# Altium integrated library Lattice Semiconductor ECP3.IntLib: 126 symbols (part 4 of 29)
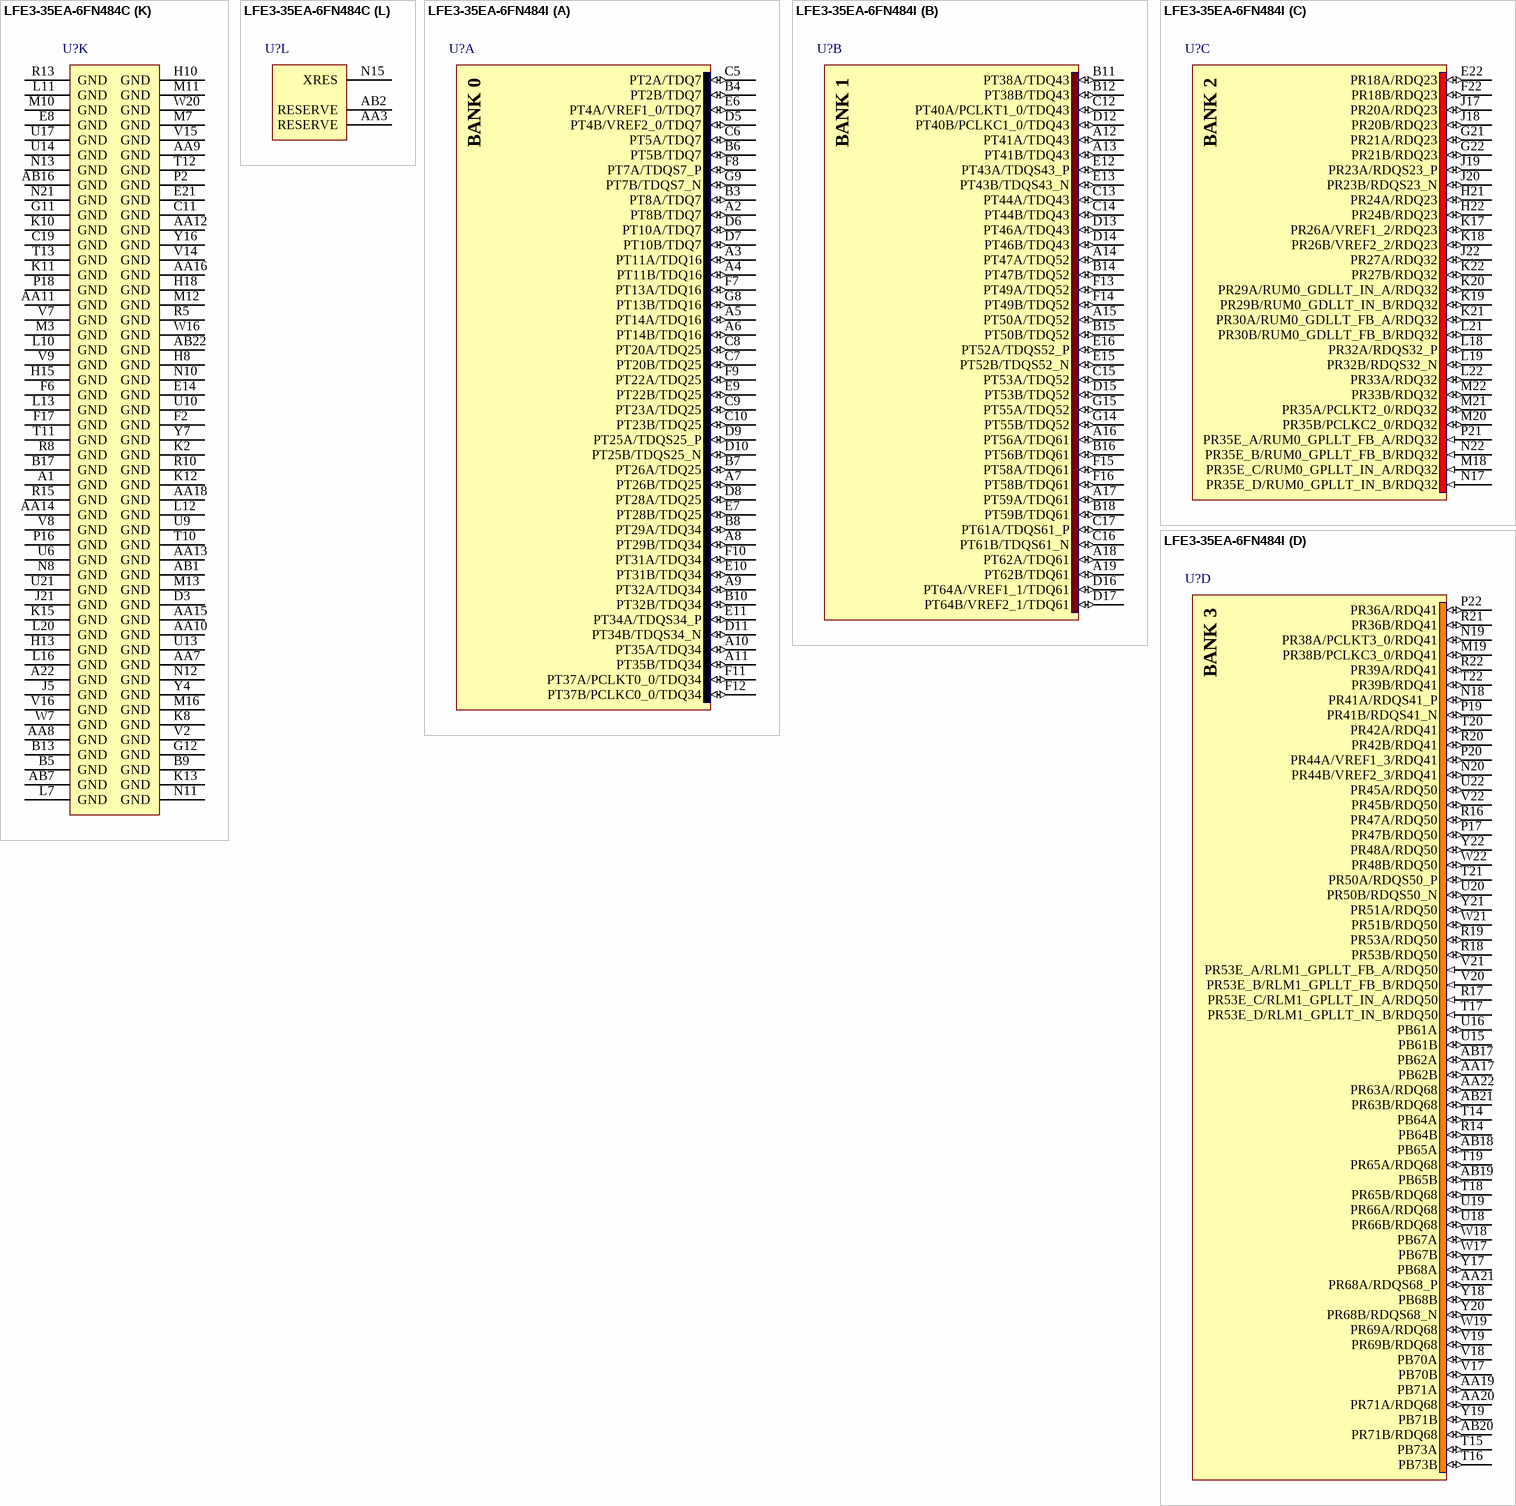
[diagram p259: symbols LFE3-35EA-6FN484C to LFE3-35EA-6FN484I]

## LFE3-35EA-6FN484C
designator U?
ECP3 1.2V FPGA, 295 I/Os, 33K LUTs, 484-Pin BGA, Speed Grade 6, Commercial Grade, Pb-Free; DatasheetVersion: Ver 01.9EA, Jul-2011; PackageVersion: ver02.8, Jul-2011; PackageReference: fpBGA484; PackageDescription: 484-Ball Fine Pitch Ball Grid Array (fpBGA484); Code_IPC: BGA100P22X22-484; ComponentLink1Description: Manufacturer URL; ComponentLink1URL: http://www.latticesemi.com/; ComponentLink2Description: Datasheet; ComponentLink2URL: http://www.latticesemi.com/documents/ds1021ea.pdf; ComponentLink3Description: Package Specification; ComponentLink3URL: http://www.latticesemi.com/lit/docs/package/pkg.pdf
footprint fpBGA484 (BGA, 484-Leads, Body 23x23mm, Pitch 1mm)
part A pins: A2 PT8B/TDQ7 (io), A3 PT11A/TDQ16 (io), A4 PT11B/TDQ16 (io), A5 PT14A/TDQ16 (io), A6 PT14B/TDQ16 (io), A7 PT26B/TDQ25 (io), A8 PT29B/TDQ34 (io), A9 PT32A/TDQ34 (io), A10 PT35A/TDQ34 (io), A11 PT35B/TDQ34 (io), B3 PT8A/TDQ7 (io), B4 PT2B/TDQ7 (io), B6 PT5B/TDQ7 (io), B7 PT26A/TDQ25 (io), B8 PT29A/TDQ34 (io), B10 PT32B/TDQ34 (io), C5 PT2A/TDQ7 (io), C6 PT5A/TDQ7 (io), C7 PT20B/TDQ25 (io), C8 PT20A/TDQ25 (io), C9 PT23A/TDQ25 (io), C10 PT23B/TDQ25 (io), D5 PT4B/VREF2_0/TDQ7 (io), D6 PT10A/TDQ7 (io), D7 PT10B/TDQ7 (io), D8 PT28A/TDQ25 (io), D9 PT25A/TDQS25_P (io), D10 PT25B/TDQS25_N (io), D11 PT34B/TDQS34_N (io), E6 PT4A/VREF1_0/TDQ7 (io), E7 PT28B/TDQ25 (io), E9 PT22B/TDQ25 (io), E10 PT31B/TDQ34 (io), E11 PT34A/TDQS34_P (io), F7 PT13A/TDQ16 (io), F8 PT7A/TDQS7_P (io), F9 PT22A/TDQ25 (io), F10 PT31A/TDQ34 (io), F11 PT37A/PCLKT0_0/TDQ34 (io), F12 PT37B/PCLKC0_0/TDQ34 (io), G8 PT13B/TDQ16 (io), G9 PT7B/TDQS7_N (io)
part B pins: A12 PT41A/TDQ43 (io), A13 PT41B/TDQ43 (io), A14 PT47A/TDQ52 (io), A15 PT50A/TDQ52 (io), A16 PT56A/TDQ61 (io), A17 PT59A/TDQ61 (io), A18 PT62A/TDQ61 (io), A19 PT62B/TDQ61 (io), B11 PT38A/TDQ43 (io), B12 PT38B/TDQ43 (io), B14 PT47B/TDQ52 (io), B15 PT50B/TDQ52 (io), B16 PT56B/TDQ61 (io), B18 PT59B/TDQ61 (io), C12 PT40A/PCLKT1_0/TDQ43 (io), C13 PT44A/TDQ43 (io), C14 PT44B/TDQ43 (io), C15 PT53A/TDQ52 (io), C16 PT61B/TDQS61_N (io), C17 PT61A/TDQS61_P (io), D12 PT40B/PCLKC1_0/TDQ43 (io), D13 PT46A/TDQ43 (io), D14 PT46B/TDQ43 (io), D15 PT53B/TDQ52 (io), D16 PT64A/VREF1_1/TDQ61 (io), D17 PT64B/VREF2_1/TDQ61 (io), E12 PT43A/TDQS43_P (io), E13 PT43B/TDQS43_N (io), E15 PT52B/TDQS52_N (io), E16 PT52A/TDQS52_P (io), F13 PT49A/TDQ52 (io), F14 PT49B/TDQ52 (io), F15 PT58A/TDQ61 (io), F16 PT58B/TDQ61 (io), G14 PT55B/TDQ52 (io), G15 PT55A/TDQ52 (io)
part C pins: E22 PR18A/RDQ23 (io), F22 PR18B/RDQ23 (io), G21 PR21A/RDQ23 (io), G22 PR21B/RDQ23 (io), H21 PR24A/RDQ23 (io), H22 PR24B/RDQ23 (io), J17 PR20A/RDQ23 (io), J18 PR20B/RDQ23 (io), J19 PR23A/RDQS23_P (io), J20 PR23B/RDQS23_N (io), J22 PR27A/RDQ32 (io), K17 PR26A/VREF1_2/RDQ23 (io), K18 PR26B/VREF2_2/RDQ23 (io), K19 PR29B/RUM0_GDLLT_IN_B/RDQ32 (io), K20 PR29A/RUM0_GDLLT_IN_A/RDQ32 (io), K21 PR30A/RUM0_GDLLT_FB_A/RDQ32 (io), K22 PR27B/RDQ32 (io), L18 PR32A/RDQS32_P (io), L19 PR32B/RDQS32_N (io), L21 PR30B/RUM0_GDLLT_FB_B/RDQ32 (io), L22 PR33A/RDQ32 (io), M18 PR35E_C/RUM0_GPLLT_IN_A/RDQ32 (in), M20 PR35B/PCLKC2_0/RDQ32 (io), M21 PR35A/PCLKT2_0/RDQ32 (io), M22 PR33B/RDQ32 (io), N17 PR35E_D/RUM0_GPLLT_IN_B/RDQ32 (in), N22 PR35E_B/RUM0_GPLLT_FB_B/RDQ32 (in), P21 PR35E_A/RUM0_GPLLT_FB_A/RDQ32 (in)
part D pins: AA17 PB62B (io), AA19 PB71A (io), AA20 PR71A/RDQ68 (io), AA21 PR68A/RDQS68_P (io), AA22 PR63A/RDQ68 (io), AB17 PB62A (io), AB18 PB65A (io), AB19 PB65B (io), AB20 PR71B/RDQ68 (io), AB21 PR63B/RDQ68 (io), M19 PR38B/PCLKC3_0/RDQ41 (io), N18 PR41A/RDQS41_P (io), N19 PR38A/PCLKT3_0/RDQ41 (io), N20 PR44B/VREF2_3/RDQ41 (io), P17 PR47B/RDQ50 (io), P19 PR41B/RDQS41_N (io), P20 PR44A/VREF1_3/RDQ41 (io), P22 PR36A/RDQ41 (io), R14 PB64B (io), R16 PR47A/RDQ50 (io), R17 PR53E_C/RLM1_GPLLT_IN_A/RDQ50 (in), R18 PR53B/RDQ50 (io), R19 PR53A/RDQ50 (io), R20 PR42B/RDQ41 (io), R21 PR36B/RDQ41 (io), R22 PR39A/RDQ41 (io), T14 PB64A (io), T15 PB73A (io), T16 PB73B (io), T17 PR53E_D/RLM1_GPLLT_IN_B/RDQ50 (in), T18 PR65B/RDQ68 (io), T19 PR65A/RDQ68 (io), T20 PR42A/RDQ41 (io), T21 PR50A/RDQS50_P (io), T22 PR39B/RDQ41 (io), U15 PB61B (io), U16 PB61A (io), U18 PR66B/RDQ68 (io), U19 PR66A/RDQ68 (io), U20 PR50B/RDQS50_N (io), U22 PR45A/RDQ50 (io), V17 PB70B (io), V18 PB70A (io), V19 PR69B/RDQ68 (io), V20 PR53E_B/RLM1_GPLLT_FB_B/RDQ50 (in), V21 PR53E_A/RLM1_GPLLT_FB_A/RDQ50 (in), V22 PR45B/RDQ50 (io), W17 PB67B (io), W18 PB67A (io), W19 PR69A/RDQ68 (io), W21 PR51B/RDQ50 (io), W22 PR48B/RDQ50 (io), Y17 PB68A (io), Y18 PB68B (io), Y19 PB71B (io), Y20 PR68B/RDQS68_N (io), Y21 PR51A/RDQ50 (io), Y22 PR48A/RDQ50 (io)
part E pins: AA1 PL66A/LDQ68 (io), AA2 PL69B/LDQ68 (io), AA4 PB5A (io), AA5 PB5B (io), AA6 PB11B (io), AB3 PB2A (io), AB4 PB2B (io), AB5 PB8A (io), AB6 PB8B (io), L2 PL36B/LDQ41 (io), L3 PL36A/LDQ41 (io), L4 PL38A/PCLKT6_0/LDQ41 (io), M1 PL39B/LDQ41 (io), M2 PL39A/LDQ41 (io), M4 PL38B/PCLKC6_0/LDQ41 (io), M5 PL41A/LDQS41_P (io), N1 PL42B/LDQ41 (io), N2 PL42A/LDQ41 (io), N3 PL45A/LDQ50 (io), N4 PL44A/VREF1_6/LDQ41 (io), N5 PL47A/LDQ50 (io), N6 PL41B/LDQS41_N (io), P1 PL48A/LDQ50 (io), P3 PL45B/LDQ50 (io), P4 PL44B/VREF2_6/LDQ41 (io), P5 PL50A/LDQS50_P (io), P6 PL47B/LDQ50 (io), P7 PL56B/LDQ59 (io), R1 PL48B/LDQ50 (io), R2 PL51B/LDQ50 (io), R3 PL51A/LDQ50 (io), R4 PL62A/LDQ59 (io), R6 PL50B/LDQS50_N (io), R7 PL59A/LDQS59_P (io), R9 PB16A (io), T1 PL53E_B/LLM1_GPLLT_FB_B (in), T2 PL53E_A/LLM1_GPLLT_FB_A (in), T3 PL53E_C/LLM1_GPLLT_IN_A (in), T4 PL65A/LDQ68 (io), T5 PL62B/LDQ59 (io), T6 PL68A/LDQS68_P (io), T7 PL59B/LDQS59_N (io), T8 PB13B (io), T9 PB16B (io), U1 PL53A/LDQ50 (io), U2 PL53B/LDQ50 (io), U3 PL53E_D/LLM1_GPLLT_IN_B (in), U4 PL65B/LDQ68 (io), U5 PL68B/LDQS68_N (io), U7 PB10B (io), U8 PB13A (io), V1 PL57A/LDQ59 (io), V3 PL60A/LDQ59 (io), V4 PL71A/LDQ68 (io), V5 PL71B/LDQ68 (io), V6 PB10A (io), W1 PL57B/LDQ59 (io), W2 PL63A/LDQ68 (io), W3 PL60B/LDQ59 (io), W4 PB4A (io), W5 PB7A (io), W6 PB7B (io), Y1 PL63B/LDQ68 (io), Y2 PL66B/LDQ68 (io), Y3 PL69A/LDQ68 (io), Y5 PB4B (io), Y6 PB11A (io)
part F pins: B1 PL21A/LDQ23 (io), B2 PL12A/LDQ14 (io), C1 PL21B/LDQ23 (io), C2 PL12B/LDQ14 (io), D1 PL15B/LDQ14 (io), D2 PL15A/LDQ14 (io), D4 PL9B/LDQ14 (io), E1 PL26A/VREF1_7/LDQ23 (io), E2 PL18A/LDQ23 (io), E3 PL9A/LDQ14 (io), E4 PL11B/LDQ14 (io), E5 PL11A/LDQ14 (io), F1 PL26B/VREF2_7/LDQ23 (io), F3 PL18B/LDQ23 (io), F4 PL14B/LDQS14_N (io), F5 PL14A/LDQS14_P (io), G1 PL27A/LDQ32 (io), G2 PL24B/LDQ23 (io), G3 PL24A/LDQ23 (io), G4 PL17A/LDQ14 (io), G5 PL17B/LDQ14 (io), H1 PL27B/LDQ32 (io), H2 PL30A/LUM0_GDLLT_FB_A/LDQ32 (io), H3 PL30B/LUM0_GDLLT_FB_B/LDQ32 (io), H4 PL20A/LDQ23 (io), H5 PL23A/LDQS23_P (io), H6 PL23B/LDQS23_N (io), J1 PL33B/LDQ32 (io), J2 PL33A/LDQ32 (io), J3 PL32A/LDQS32_P (io), J4 PL20B/LDQ23 (io), J6 PL29B/LUM0_GDLLT_IN_B/LDQ32 (io), J7 PL29A/LUM0_GDLLT_IN_A/LDQ32 (io), K1 PL35E_A/LUM0_GPLLT_FB_A (in), K3 PL32B/LDQS32_N (io), K4 PL35A/PCLKT7_0/LDQ32 (io), K5 PL35B/PCLKC7_0/LDQ32 (io), K6 PL35E_D/LUM0_GPLLT_IN_B (in), L1 PL35E_B/LUM0_GPLLT_FB_B (in), L5 PL35E_C/LUM0_GPLLT_IN_A (in)
part G pins: A20 PT71A (io), A21 PR9A/DOUT/CSON/CSSPI1N (io), B19 PT68B (io), B20 PT71B (io), B22 PR9B/MCLK (io), C18 PT68A (io), C21 PR6A (io), C22 PR12A/D1 (io), D18 PT73A (io), D19 PT73B (io), D21 PR6B/DI/CSSPI0N/CSSPIN (io), D22 PR12B/D2 (io), E17 PT70B (io), E18 PT70A (io), F18 PR8B/CSN/SN/CONT1N (io), F19 PR8A/CS1N/HOLDN/CONT2N (io), G17 PR14A/D3/SI (io), G18 PR14B/D4/SO (io), G19 PR15A/D5 (io), G20 PR15B/D6/SPID1 (io), H17 PR11B/D0/SPIFASTN (io), H19 PR17A/D7/SPID0 (io), H20 PR17B/BUSY/SISPI (io), J16 PR11A/WRITEN (io)
part H pins: B21 CFG2 (in), C3 TDO (out), C4 TMS (in), C20 PROGRAMN (in), D20 INITN (io), E19 CFG1 (in), E20 CFG0 (in), F20 CCLK (in), F21 DONE (io), G6 TDI (in), G7 TCK (in)
part I pins: AB8 PCSA_HDOUTP3 (out), AB9 PCSA_HDOUTN3 (out), AB10 PCSA_HDOUTN2 (out), AB11 PCSA_HDOUTP2 (out), AB12 PCSA_HDOUTP1 (out), AB13 PCSA_HDOUTN1 (out), AB14 PCSA_HDOUTN0 (out), AB15 PCSA_HDOUTP0 (out), V11 PCSA_REFCLKN (in), V12 PCSA_REFCLKP (in), Y8 PCSA_HDINP3 (in), Y9 PCSA_HDINN3 (in), Y10 PCSA_HDINN2 (in), Y11 PCSA_HDINP2 (in), Y12 PCSA_HDINP1 (in), Y13 PCSA_HDINN1 (in), Y14 PCSA_HDINN0 (in), Y15 PCSA_HDINP0 (in)
part J pins: G10 VCCIO0 (power), G13 VCCIO1 (power), G16 VCCIO8 (power), H7 VCCJ (power), H9 VCCIO0 (power), H11 VCCAUX (power), H12 VCCAUX (power), H14 VCCIO1 (power), H16 VCCIO8 (power), J8 VCCIO7 (power), J9 VCC (power), J10 VCC (power), J11 VCC (power), J12 VCC (power), J13 VCC (power), J14 VCC (power), J15 VCCIO2 (power), K7 VCCIO7 (power), K9 VCCPLL_L (power), K14 VCCPLL_R (power), K16 VCCIO2 (power), L6 VTT7 (power), L8 VCCAUX (power), L9 VCC (power), L14 VCC (power), L15 VCCAUX (power), L17 VTT2 (power), M6 VTT6 (power), M8 VCCAUX (power), M9 VCC (power), M14 VCC (power), M15 VCCAUX (power), M17 VTT3 (power), N7 VCCIO6 (power), N9 VCCPLL_L (power), N14 VCCPLL_R (power), N16 VCCIO3 (power), P8 VCCIO6 (power), P9 VCC (power), P10 VCC (power), P11 VCC (power), P12 VCC (power), P13 VCC (power), P14 VCC (power), P15 VCCIO3 (power), R11 VCCAUX (power), R12 VCCAUX (power), U11 VCCA (power), U12 VCCA (power), V10 VCCA (power), V13 VCCA (power), W8 PCSA_VCCIB3 (power), W9 PCSA_VCCOB3 (power), W10 PCSA_VCCOB2 (power), W11 PCSA_VCCIB2 (power), W12 PCSA_VCCIB1 (power), W13 PCSA_VCCOB1 (power), W14 PCSA_VCCOB0 (power), W15 PCSA_VCCIB0 (power)
part K pins: A1 GND (power), A22 GND (power), AA7 GND (power), AA8 GND (power), AA9 GND (power), AA10 GND (power), AA11 GND (power), AA12 GND (power), AA13 GND (power), AA14 GND (power), AA15 GND (power), AA16 GND (power), AA18 GND (power), AB1 GND (power), AB7 GND (power), AB16 GND (power), AB22 GND (power), B5 GND (power), B9 GND (power), B13 GND (power), B17 GND (power), C11 GND (power), C19 GND (power), D3 GND (power), E8 GND (power), E14 GND (power), E21 GND (power), F2 GND (power), F6 GND (power), F17 GND (power), G11 GND (power), G12 GND (power), H8 GND (power), H10 GND (power), H13 GND (power), H15 GND (power), H18 GND (power), J5 GND (power), J21 GND (power), K2 GND (power), K8 GND (power), K10 GND (power), K11 GND (power), K12 GND (power), K13 GND (power), K15 GND (power), L7 GND (power), L10 GND (power), L11 GND (power), L12 GND (power), L13 GND (power), L16 GND (power), L20 GND (power), M3 GND (power), M7 GND (power), M10 GND (power), M11 GND (power), M12 GND (power), M13 GND (power), M16 GND (power), N8 GND (power), N10 GND (power), N11 GND (power), N12 GND (power), N13 GND (power), N21 GND (power), P2 GND (power), P16 GND (power), P18 GND (power), R5 GND (power), R8 GND (power), R10 GND (power), R13 GND (power), R15 GND (power), T10 GND (power), T11 GND (power), T12 GND (power), T13 GND (power), U6 GND (power), U9 GND (power), U10 GND (power), U13 GND (power), U14 GND (power), U17 GND (power), U21 GND (power), V2 GND (power), V7 GND (power), V8 GND (power), V9 GND (power), V14 GND (power), V15 GND (power), V16 GND (power), W7 GND (power), W16 GND (power), W20 GND (power), Y4 GND (power), Y7 GND (power), Y16 GND (power)
part L pins: AA3 RESERVE, AB2 RESERVE, N15 XRES
part A text: BANK 0
part B text: BANK 1
part C text: BANK 2
part D text: BANK 3
part E text: BANK 6
part F text: BANK 7
part G text: BANK 8

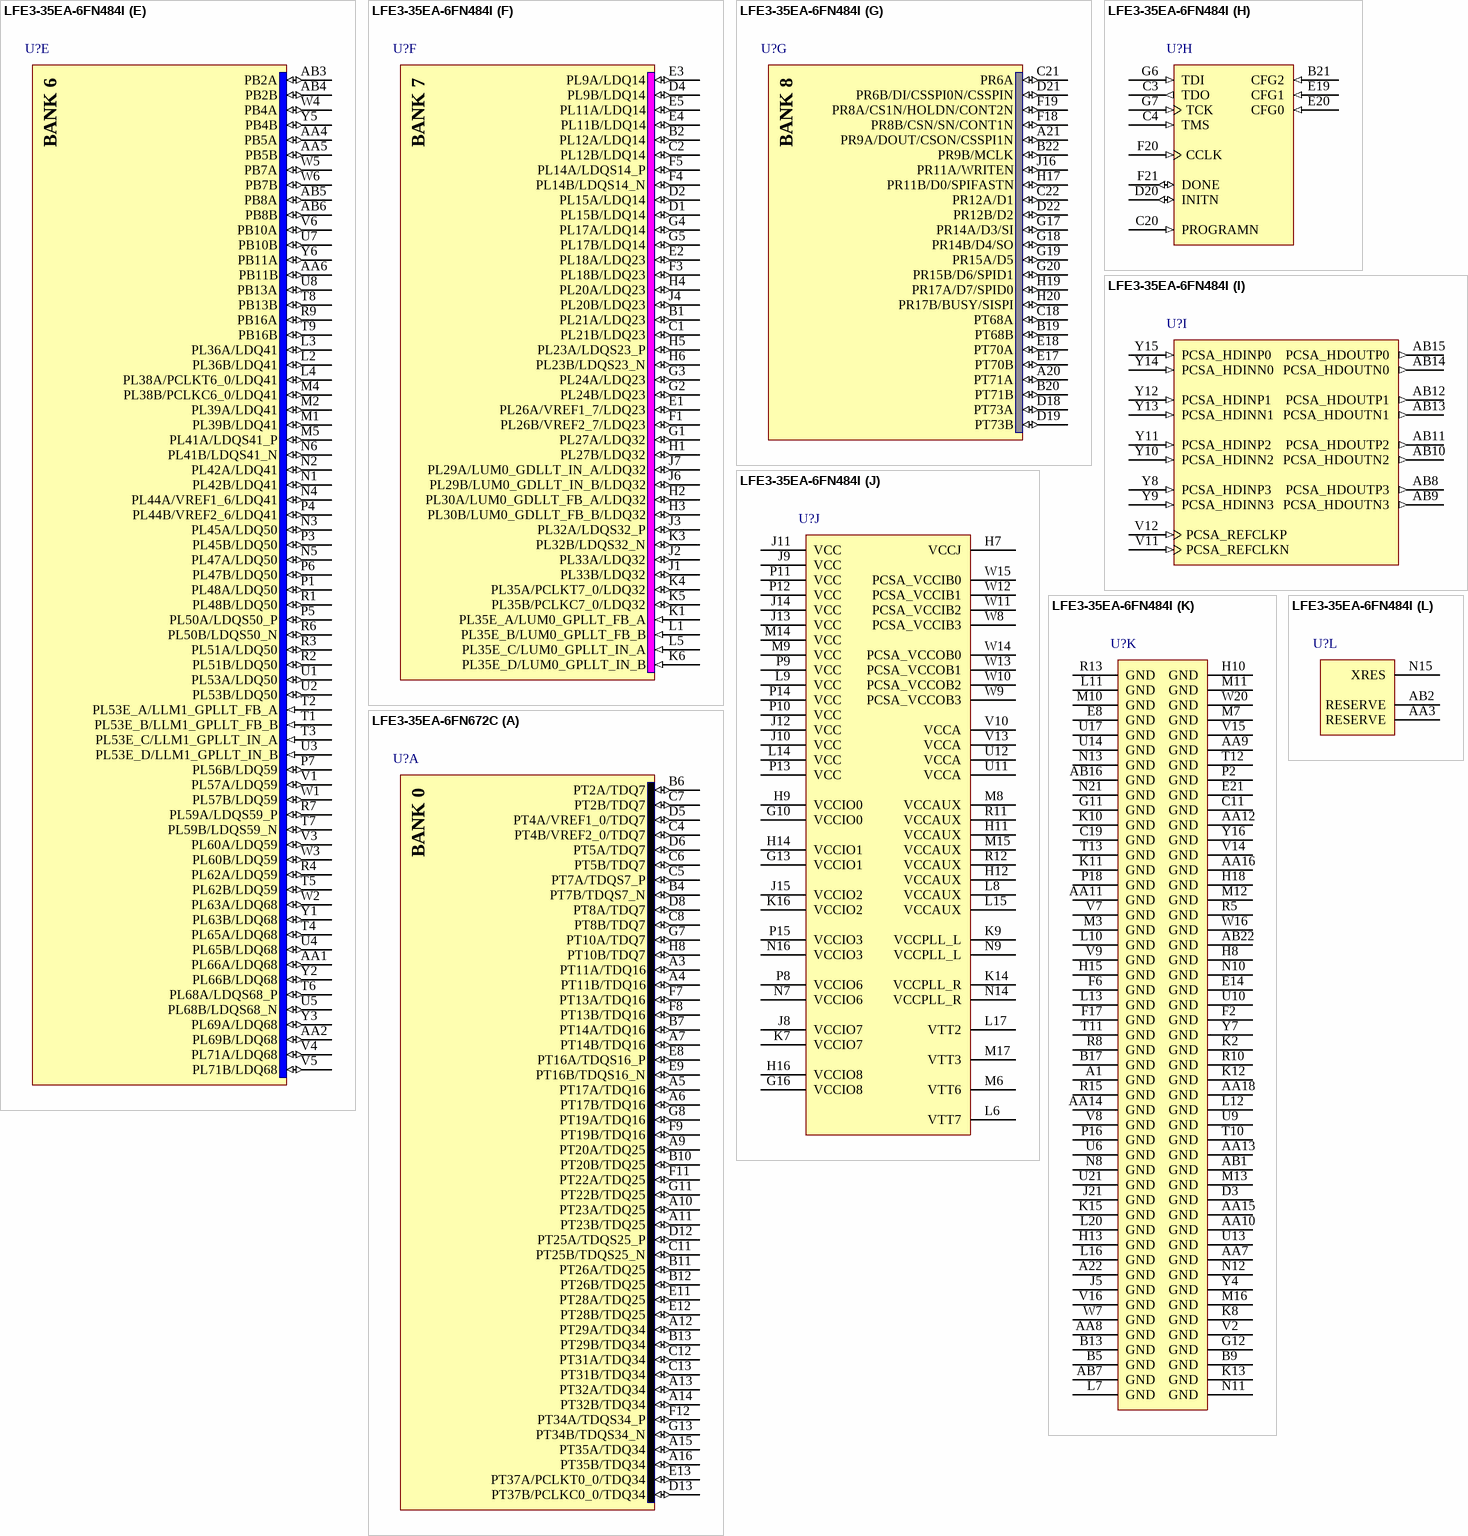
[diagram p17: symbols LFE3-35EA-6FN484I to LFE3-35EA-6FN672C]

## LFE3-35EA-6FN484I
designator U?
ECP3 1.2V FPGA, 295 I/Os, 33K LUTs, 484-Pin BGA, Speed Grade 6, Industrial Grade, Pb-Free; DatasheetVersion: Ver 01.9EA, Jul-2011; PackageVersion: ver02.8, Jul-2011; PackageReference: fpBGA484; PackageDescription: 484-Ball Fine Pitch Ball Grid Array (fpBGA484); Code_IPC: BGA100P22X22-484; ComponentLink1Description: Manufacturer URL; ComponentLink1URL: http://www.latticesemi.com/; ComponentLink2Description: Datasheet; ComponentLink2URL: http://www.latticesemi.com/documents/ds1021ea.pdf; ComponentLink3Description: Package Specification; ComponentLink3URL: http://www.latticesemi.com/lit/docs/package/pkg.pdf
footprint fpBGA484 (BGA, 484-Leads, Body 23x23mm, Pitch 1mm)
part A pins: A2 PT8B/TDQ7 (io), A3 PT11A/TDQ16 (io), A4 PT11B/TDQ16 (io), A5 PT14A/TDQ16 (io), A6 PT14B/TDQ16 (io), A7 PT26B/TDQ25 (io), A8 PT29B/TDQ34 (io), A9 PT32A/TDQ34 (io), A10 PT35A/TDQ34 (io), A11 PT35B/TDQ34 (io), B3 PT8A/TDQ7 (io), B4 PT2B/TDQ7 (io), B6 PT5B/TDQ7 (io), B7 PT26A/TDQ25 (io), B8 PT29A/TDQ34 (io), B10 PT32B/TDQ34 (io), C5 PT2A/TDQ7 (io), C6 PT5A/TDQ7 (io), C7 PT20B/TDQ25 (io), C8 PT20A/TDQ25 (io), C9 PT23A/TDQ25 (io), C10 PT23B/TDQ25 (io), D5 PT4B/VREF2_0/TDQ7 (io), D6 PT10A/TDQ7 (io), D7 PT10B/TDQ7 (io), D8 PT28A/TDQ25 (io), D9 PT25A/TDQS25_P (io), D10 PT25B/TDQS25_N (io), D11 PT34B/TDQS34_N (io), E6 PT4A/VREF1_0/TDQ7 (io), E7 PT28B/TDQ25 (io), E9 PT22B/TDQ25 (io), E10 PT31B/TDQ34 (io), E11 PT34A/TDQS34_P (io), F7 PT13A/TDQ16 (io), F8 PT7A/TDQS7_P (io), F9 PT22A/TDQ25 (io), F10 PT31A/TDQ34 (io), F11 PT37A/PCLKT0_0/TDQ34 (io), F12 PT37B/PCLKC0_0/TDQ34 (io), G8 PT13B/TDQ16 (io), G9 PT7B/TDQS7_N (io)
part B pins: A12 PT41A/TDQ43 (io), A13 PT41B/TDQ43 (io), A14 PT47A/TDQ52 (io), A15 PT50A/TDQ52 (io), A16 PT56A/TDQ61 (io), A17 PT59A/TDQ61 (io), A18 PT62A/TDQ61 (io), A19 PT62B/TDQ61 (io), B11 PT38A/TDQ43 (io), B12 PT38B/TDQ43 (io), B14 PT47B/TDQ52 (io), B15 PT50B/TDQ52 (io), B16 PT56B/TDQ61 (io), B18 PT59B/TDQ61 (io), C12 PT40A/PCLKT1_0/TDQ43 (io), C13 PT44A/TDQ43 (io), C14 PT44B/TDQ43 (io), C15 PT53A/TDQ52 (io), C16 PT61B/TDQS61_N (io), C17 PT61A/TDQS61_P (io), D12 PT40B/PCLKC1_0/TDQ43 (io), D13 PT46A/TDQ43 (io), D14 PT46B/TDQ43 (io), D15 PT53B/TDQ52 (io), D16 PT64A/VREF1_1/TDQ61 (io), D17 PT64B/VREF2_1/TDQ61 (io), E12 PT43A/TDQS43_P (io), E13 PT43B/TDQS43_N (io), E15 PT52B/TDQS52_N (io), E16 PT52A/TDQS52_P (io), F13 PT49A/TDQ52 (io), F14 PT49B/TDQ52 (io), F15 PT58A/TDQ61 (io), F16 PT58B/TDQ61 (io), G14 PT55B/TDQ52 (io), G15 PT55A/TDQ52 (io)
part C pins: E22 PR18A/RDQ23 (io), F22 PR18B/RDQ23 (io), G21 PR21A/RDQ23 (io), G22 PR21B/RDQ23 (io), H21 PR24A/RDQ23 (io), H22 PR24B/RDQ23 (io), J17 PR20A/RDQ23 (io), J18 PR20B/RDQ23 (io), J19 PR23A/RDQS23_P (io), J20 PR23B/RDQS23_N (io), J22 PR27A/RDQ32 (io), K17 PR26A/VREF1_2/RDQ23 (io), K18 PR26B/VREF2_2/RDQ23 (io), K19 PR29B/RUM0_GDLLT_IN_B/RDQ32 (io), K20 PR29A/RUM0_GDLLT_IN_A/RDQ32 (io), K21 PR30A/RUM0_GDLLT_FB_A/RDQ32 (io), K22 PR27B/RDQ32 (io), L18 PR32A/RDQS32_P (io), L19 PR32B/RDQS32_N (io), L21 PR30B/RUM0_GDLLT_FB_B/RDQ32 (io), L22 PR33A/RDQ32 (io), M18 PR35E_C/RUM0_GPLLT_IN_A/RDQ32 (in), M20 PR35B/PCLKC2_0/RDQ32 (io), M21 PR35A/PCLKT2_0/RDQ32 (io), M22 PR33B/RDQ32 (io), N17 PR35E_D/RUM0_GPLLT_IN_B/RDQ32 (in), N22 PR35E_B/RUM0_GPLLT_FB_B/RDQ32 (in), P21 PR35E_A/RUM0_GPLLT_FB_A/RDQ32 (in)
part D pins: AA17 PB62B (io), AA19 PB71A (io), AA20 PR71A/RDQ68 (io), AA21 PR68A/RDQS68_P (io), AA22 PR63A/RDQ68 (io), AB17 PB62A (io), AB18 PB65A (io), AB19 PB65B (io), AB20 PR71B/RDQ68 (io), AB21 PR63B/RDQ68 (io), M19 PR38B/PCLKC3_0/RDQ41 (io), N18 PR41A/RDQS41_P (io), N19 PR38A/PCLKT3_0/RDQ41 (io), N20 PR44B/VREF2_3/RDQ41 (io), P17 PR47B/RDQ50 (io), P19 PR41B/RDQS41_N (io), P20 PR44A/VREF1_3/RDQ41 (io), P22 PR36A/RDQ41 (io), R14 PB64B (io), R16 PR47A/RDQ50 (io), R17 PR53E_C/RLM1_GPLLT_IN_A/RDQ50 (in), R18 PR53B/RDQ50 (io), R19 PR53A/RDQ50 (io), R20 PR42B/RDQ41 (io), R21 PR36B/RDQ41 (io), R22 PR39A/RDQ41 (io), T14 PB64A (io), T15 PB73A (io), T16 PB73B (io), T17 PR53E_D/RLM1_GPLLT_IN_B/RDQ50 (in), T18 PR65B/RDQ68 (io), T19 PR65A/RDQ68 (io), T20 PR42A/RDQ41 (io), T21 PR50A/RDQS50_P (io), T22 PR39B/RDQ41 (io), U15 PB61B (io), U16 PB61A (io), U18 PR66B/RDQ68 (io), U19 PR66A/RDQ68 (io), U20 PR50B/RDQS50_N (io), U22 PR45A/RDQ50 (io), V17 PB70B (io), V18 PB70A (io), V19 PR69B/RDQ68 (io), V20 PR53E_B/RLM1_GPLLT_FB_B/RDQ50 (in), V21 PR53E_A/RLM1_GPLLT_FB_A/RDQ50 (in), V22 PR45B/RDQ50 (io), W17 PB67B (io), W18 PB67A (io), W19 PR69A/RDQ68 (io), W21 PR51B/RDQ50 (io), W22 PR48B/RDQ50 (io), Y17 PB68A (io), Y18 PB68B (io), Y19 PB71B (io), Y20 PR68B/RDQS68_N (io), Y21 PR51A/RDQ50 (io), Y22 PR48A/RDQ50 (io)
part E pins: AA1 PL66A/LDQ68 (io), AA2 PL69B/LDQ68 (io), AA4 PB5A (io), AA5 PB5B (io), AA6 PB11B (io), AB3 PB2A (io), AB4 PB2B (io), AB5 PB8A (io), AB6 PB8B (io), L2 PL36B/LDQ41 (io), L3 PL36A/LDQ41 (io), L4 PL38A/PCLKT6_0/LDQ41 (io), M1 PL39B/LDQ41 (io), M2 PL39A/LDQ41 (io), M4 PL38B/PCLKC6_0/LDQ41 (io), M5 PL41A/LDQS41_P (io), N1 PL42B/LDQ41 (io), N2 PL42A/LDQ41 (io), N3 PL45A/LDQ50 (io), N4 PL44A/VREF1_6/LDQ41 (io), N5 PL47A/LDQ50 (io), N6 PL41B/LDQS41_N (io), P1 PL48A/LDQ50 (io), P3 PL45B/LDQ50 (io), P4 PL44B/VREF2_6/LDQ41 (io), P5 PL50A/LDQS50_P (io), P6 PL47B/LDQ50 (io), P7 PL56B/LDQ59 (io), R1 PL48B/LDQ50 (io), R2 PL51B/LDQ50 (io), R3 PL51A/LDQ50 (io), R4 PL62A/LDQ59 (io), R6 PL50B/LDQS50_N (io), R7 PL59A/LDQS59_P (io), R9 PB16A (io), T1 PL53E_B/LLM1_GPLLT_FB_B (in), T2 PL53E_A/LLM1_GPLLT_FB_A (in), T3 PL53E_C/LLM1_GPLLT_IN_A (in), T4 PL65A/LDQ68 (io), T5 PL62B/LDQ59 (io), T6 PL68A/LDQS68_P (io), T7 PL59B/LDQS59_N (io), T8 PB13B (io), T9 PB16B (io), U1 PL53A/LDQ50 (io), U2 PL53B/LDQ50 (io), U3 PL53E_D/LLM1_GPLLT_IN_B (in), U4 PL65B/LDQ68 (io), U5 PL68B/LDQS68_N (io), U7 PB10B (io), U8 PB13A (io), V1 PL57A/LDQ59 (io), V3 PL60A/LDQ59 (io), V4 PL71A/LDQ68 (io), V5 PL71B/LDQ68 (io), V6 PB10A (io), W1 PL57B/LDQ59 (io), W2 PL63A/LDQ68 (io), W3 PL60B/LDQ59 (io), W4 PB4A (io), W5 PB7A (io), W6 PB7B (io), Y1 PL63B/LDQ68 (io), Y2 PL66B/LDQ68 (io), Y3 PL69A/LDQ68 (io), Y5 PB4B (io), Y6 PB11A (io)
part F pins: B1 PL21A/LDQ23 (io), B2 PL12A/LDQ14 (io), C1 PL21B/LDQ23 (io), C2 PL12B/LDQ14 (io), D1 PL15B/LDQ14 (io), D2 PL15A/LDQ14 (io), D4 PL9B/LDQ14 (io), E1 PL26A/VREF1_7/LDQ23 (io), E2 PL18A/LDQ23 (io), E3 PL9A/LDQ14 (io), E4 PL11B/LDQ14 (io), E5 PL11A/LDQ14 (io), F1 PL26B/VREF2_7/LDQ23 (io), F3 PL18B/LDQ23 (io), F4 PL14B/LDQS14_N (io), F5 PL14A/LDQS14_P (io), G1 PL27A/LDQ32 (io), G2 PL24B/LDQ23 (io), G3 PL24A/LDQ23 (io), G4 PL17A/LDQ14 (io), G5 PL17B/LDQ14 (io), H1 PL27B/LDQ32 (io), H2 PL30A/LUM0_GDLLT_FB_A/LDQ32 (io), H3 PL30B/LUM0_GDLLT_FB_B/LDQ32 (io), H4 PL20A/LDQ23 (io), H5 PL23A/LDQS23_P (io), H6 PL23B/LDQS23_N (io), J1 PL33B/LDQ32 (io), J2 PL33A/LDQ32 (io), J3 PL32A/LDQS32_P (io), J4 PL20B/LDQ23 (io), J6 PL29B/LUM0_GDLLT_IN_B/LDQ32 (io), J7 PL29A/LUM0_GDLLT_IN_A/LDQ32 (io), K1 PL35E_A/LUM0_GPLLT_FB_A (in), K3 PL32B/LDQS32_N (io), K4 PL35A/PCLKT7_0/LDQ32 (io), K5 PL35B/PCLKC7_0/LDQ32 (io), K6 PL35E_D/LUM0_GPLLT_IN_B (in), L1 PL35E_B/LUM0_GPLLT_FB_B (in), L5 PL35E_C/LUM0_GPLLT_IN_A (in)
part G pins: A20 PT71A (io), A21 PR9A/DOUT/CSON/CSSPI1N (io), B19 PT68B (io), B20 PT71B (io), B22 PR9B/MCLK (io), C18 PT68A (io), C21 PR6A (io), C22 PR12A/D1 (io), D18 PT73A (io), D19 PT73B (io), D21 PR6B/DI/CSSPI0N/CSSPIN (io), D22 PR12B/D2 (io), E17 PT70B (io), E18 PT70A (io), F18 PR8B/CSN/SN/CONT1N (io), F19 PR8A/CS1N/HOLDN/CONT2N (io), G17 PR14A/D3/SI (io), G18 PR14B/D4/SO (io), G19 PR15A/D5 (io), G20 PR15B/D6/SPID1 (io), H17 PR11B/D0/SPIFASTN (io), H19 PR17A/D7/SPID0 (io), H20 PR17B/BUSY/SISPI (io), J16 PR11A/WRITEN (io)
part H pins: B21 CFG2 (in), C3 TDO (out), C4 TMS (in), C20 PROGRAMN (in), D20 INITN (io), E19 CFG1 (in), E20 CFG0 (in), F20 CCLK (in), F21 DONE (io), G6 TDI (in), G7 TCK (in)
part I pins: AB8 PCSA_HDOUTP3 (out), AB9 PCSA_HDOUTN3 (out), AB10 PCSA_HDOUTN2 (out), AB11 PCSA_HDOUTP2 (out), AB12 PCSA_HDOUTP1 (out), AB13 PCSA_HDOUTN1 (out), AB14 PCSA_HDOUTN0 (out), AB15 PCSA_HDOUTP0 (out), V11 PCSA_REFCLKN (in), V12 PCSA_REFCLKP (in), Y8 PCSA_HDINP3 (in), Y9 PCSA_HDINN3 (in), Y10 PCSA_HDINN2 (in), Y11 PCSA_HDINP2 (in), Y12 PCSA_HDINP1 (in), Y13 PCSA_HDINN1 (in), Y14 PCSA_HDINN0 (in), Y15 PCSA_HDINP0 (in)
part J pins: G10 VCCIO0 (power), G13 VCCIO1 (power), G16 VCCIO8 (power), H7 VCCJ (power), H9 VCCIO0 (power), H11 VCCAUX (power), H12 VCCAUX (power), H14 VCCIO1 (power), H16 VCCIO8 (power), J8 VCCIO7 (power), J9 VCC (power), J10 VCC (power), J11 VCC (power), J12 VCC (power), J13 VCC (power), J14 VCC (power), J15 VCCIO2 (power), K7 VCCIO7 (power), K9 VCCPLL_L (power), K14 VCCPLL_R (power), K16 VCCIO2 (power), L6 VTT7 (power), L8 VCCAUX (power), L9 VCC (power), L14 VCC (power), L15 VCCAUX (power), L17 VTT2 (power), M6 VTT6 (power), M8 VCCAUX (power), M9 VCC (power), M14 VCC (power), M15 VCCAUX (power), M17 VTT3 (power), N7 VCCIO6 (power), N9 VCCPLL_L (power), N14 VCCPLL_R (power), N16 VCCIO3 (power), P8 VCCIO6 (power), P9 VCC (power), P10 VCC (power), P11 VCC (power), P12 VCC (power), P13 VCC (power), P14 VCC (power), P15 VCCIO3 (power), R11 VCCAUX (power), R12 VCCAUX (power), U11 VCCA (power), U12 VCCA (power), V10 VCCA (power), V13 VCCA (power), W8 PCSA_VCCIB3 (power), W9 PCSA_VCCOB3 (power), W10 PCSA_VCCOB2 (power), W11 PCSA_VCCIB2 (power), W12 PCSA_VCCIB1 (power), W13 PCSA_VCCOB1 (power), W14 PCSA_VCCOB0 (power), W15 PCSA_VCCIB0 (power)
part K pins: A1 GND (power), A22 GND (power), AA7 GND (power), AA8 GND (power), AA9 GND (power), AA10 GND (power), AA11 GND (power), AA12 GND (power), AA13 GND (power), AA14 GND (power), AA15 GND (power), AA16 GND (power), AA18 GND (power), AB1 GND (power), AB7 GND (power), AB16 GND (power), AB22 GND (power), B5 GND (power), B9 GND (power), B13 GND (power), B17 GND (power), C11 GND (power), C19 GND (power), D3 GND (power), E8 GND (power), E14 GND (power), E21 GND (power), F2 GND (power), F6 GND (power), F17 GND (power), G11 GND (power), G12 GND (power), H8 GND (power), H10 GND (power), H13 GND (power), H15 GND (power), H18 GND (power), J5 GND (power), J21 GND (power), K2 GND (power), K8 GND (power), K10 GND (power), K11 GND (power), K12 GND (power), K13 GND (power), K15 GND (power), L7 GND (power), L10 GND (power), L11 GND (power), L12 GND (power), L13 GND (power), L16 GND (power), L20 GND (power), M3 GND (power), M7 GND (power), M10 GND (power), M11 GND (power), M12 GND (power), M13 GND (power), M16 GND (power), N8 GND (power), N10 GND (power), N11 GND (power), N12 GND (power), N13 GND (power), N21 GND (power), P2 GND (power), P16 GND (power), P18 GND (power), R5 GND (power), R8 GND (power), R10 GND (power), R13 GND (power), R15 GND (power), T10 GND (power), T11 GND (power), T12 GND (power), T13 GND (power), U6 GND (power), U9 GND (power), U10 GND (power), U13 GND (power), U14 GND (power), U17 GND (power), U21 GND (power), V2 GND (power), V7 GND (power), V8 GND (power), V9 GND (power), V14 GND (power), V15 GND (power), V16 GND (power), W7 GND (power), W16 GND (power), W20 GND (power), Y4 GND (power), Y7 GND (power), Y16 GND (power)
part L pins: AA3 RESERVE, AB2 RESERVE, N15 XRES
part A text: BANK 0
part B text: BANK 1
part C text: BANK 2
part D text: BANK 3
part E text: BANK 6
part F text: BANK 7
part G text: BANK 8

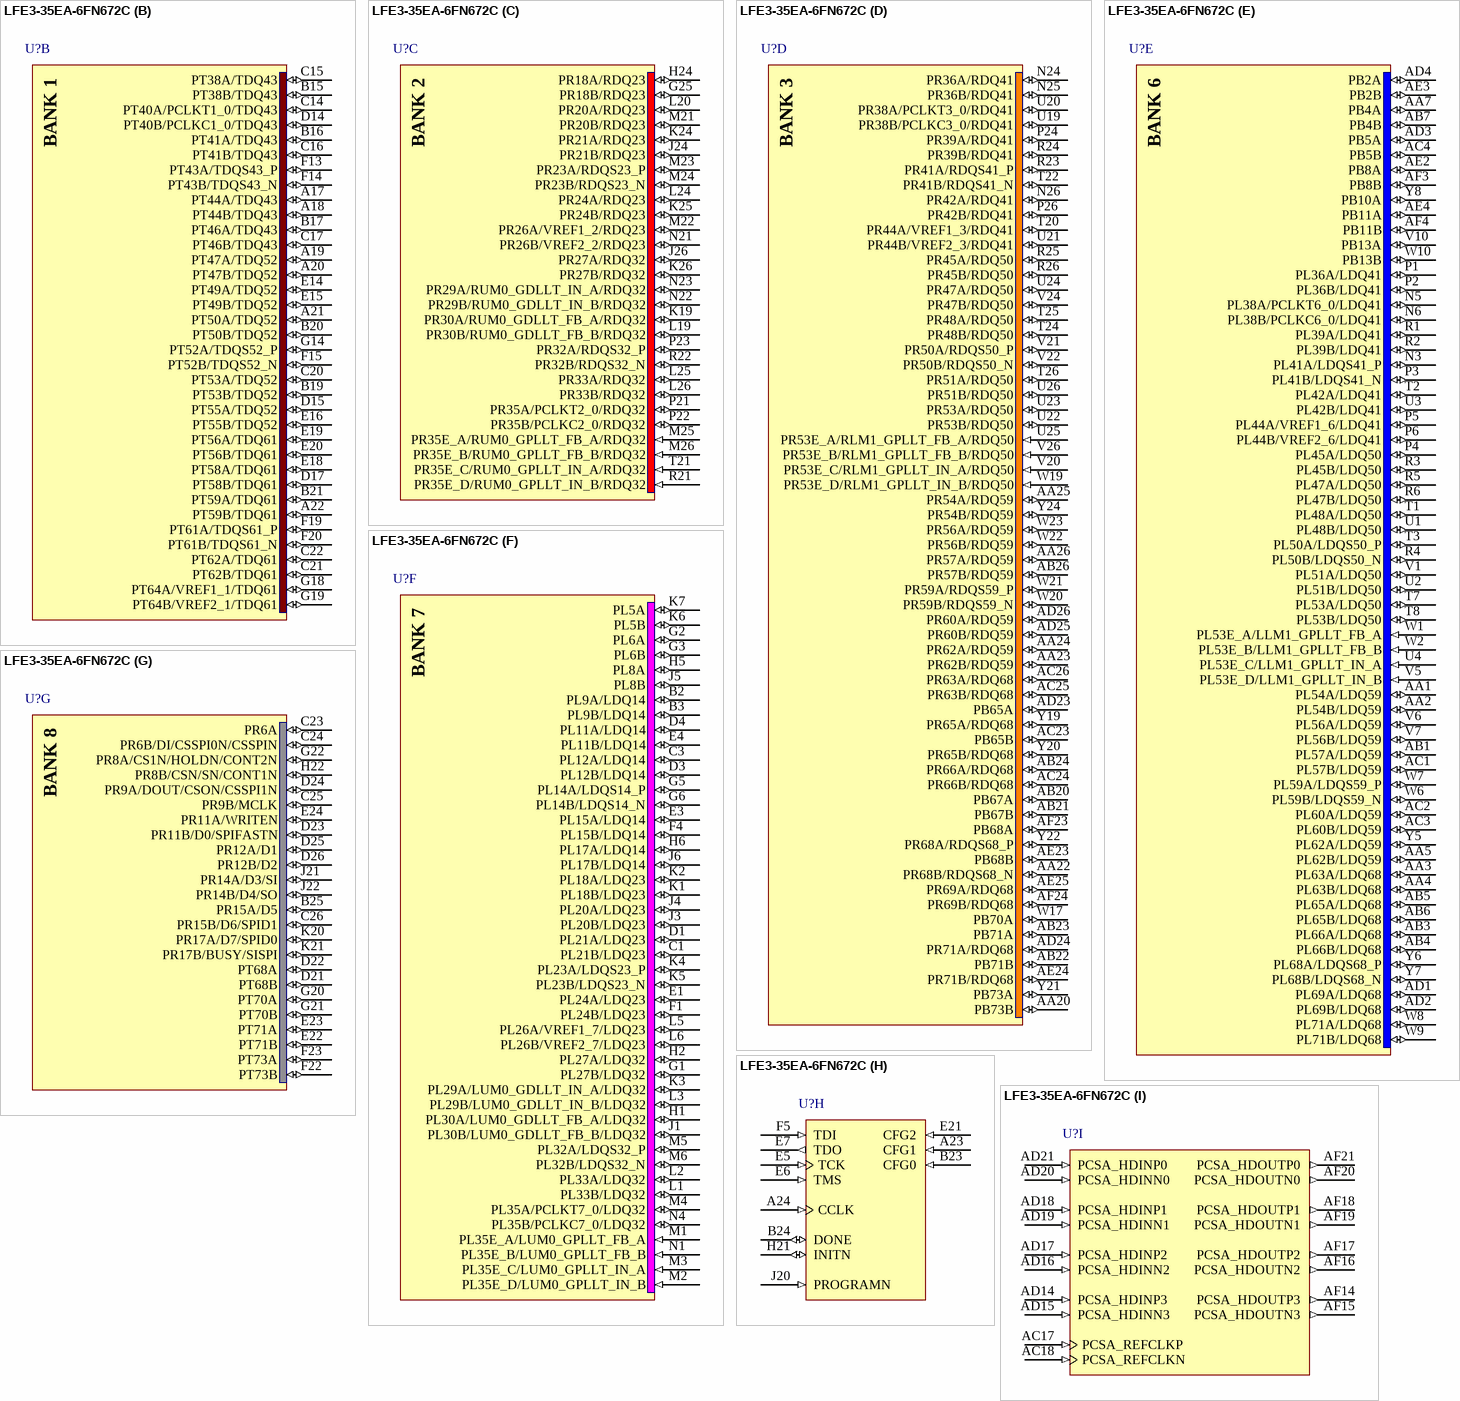
[diagram p18: symbol LFE3-35EA-6FN672C]

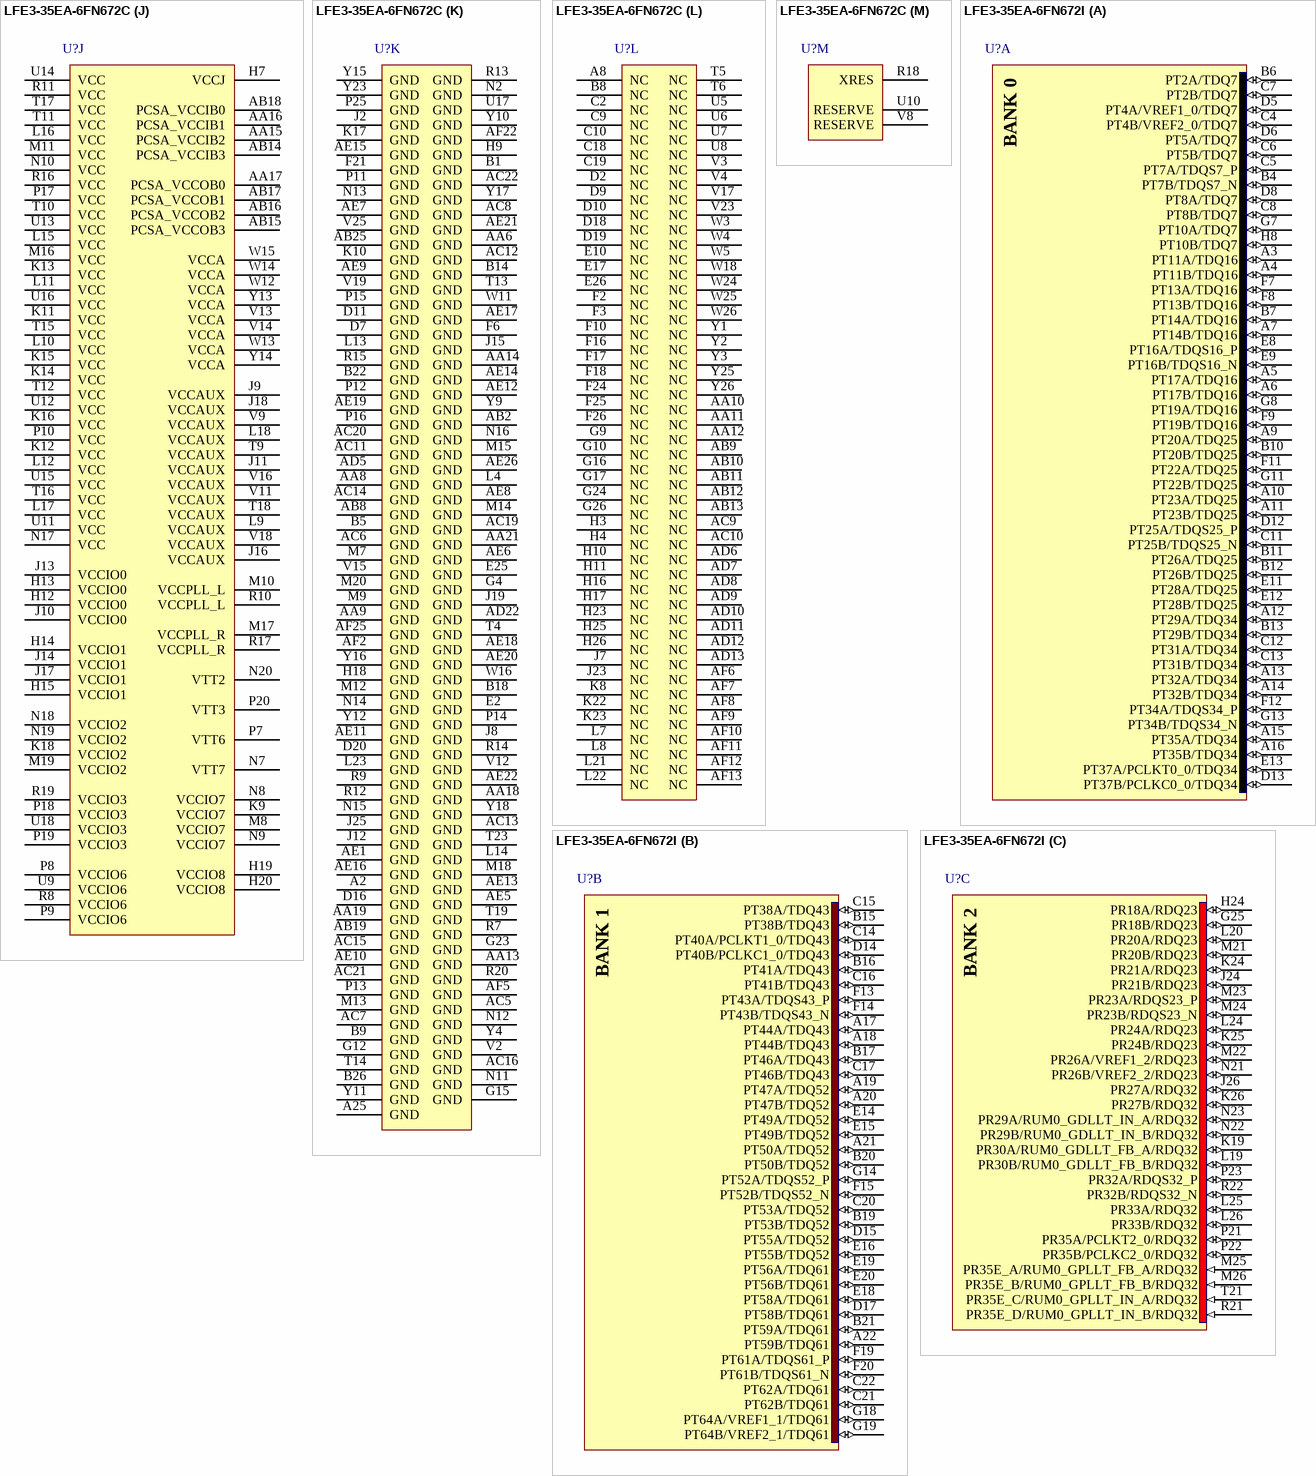
[diagram p19: symbols LFE3-35EA-6FN672C to LFE3-35EA-6FN672I]

## LFE3-35EA-6FN672C
designator U?
ECP3 1.2V FPGA, 310 I/Os, 33K LUTs, 672-Pin BGA, Speed Grade 6, Commercial Grade, Pb-Free; DatasheetVersion: Ver 01.9EA, Jul-2011; PackageVersion: ver02.8, Jul-2011; PackageReference: fpBGA672; PackageDescription: 672-Ball Fine Pitch Ball Grid Array (fpBGA672); ComponentLink1Description: Manufacturer URL; ComponentLink1URL: http://www.latticesemi.com/; ComponentLink2Description: Datasheet; ComponentLink2URL: http://www.latticesemi.com/documents/ds1021ea.pdf; ComponentLink3Description: Package Specification; ComponentLink3URL: http://www.latticesemi.com/lit/docs/package/pkg.pdf
footprint fpBGA672 (BGA, 672-Leads, Body 27x27mm, Pitch 1mm)
part A pins: A3 PT11A/TDQ16 (io), A4 PT11B/TDQ16 (io), A5 PT17A/TDQ16 (io), A6 PT17B/TDQ16 (io), A7 PT14B/TDQ16 (io), A9 PT20A/TDQ25 (io), A10 PT23A/TDQ25 (io), A11 PT23B/TDQ25 (io), A12 PT29A/TDQ34 (io), A13 PT32A/TDQ34 (io), A14 PT32B/TDQ34 (io), A15 PT35A/TDQ34 (io), A16 PT35B/TDQ34 (io), B4 PT7B/TDQS7_N (io), B6 PT2A/TDQ7 (io), B7 PT14A/TDQ16 (io), B10 PT20B/TDQ25 (io), B11 PT26A/TDQ25 (io), B12 PT26B/TDQ25 (io), B13 PT29B/TDQ34 (io), C4 PT4B/VREF2_0/TDQ7 (io), C5 PT7A/TDQS7_P (io), C6 PT5B/TDQ7 (io), C7 PT2B/TDQ7 (io), C8 PT8B/TDQ7 (io), C11 PT25B/TDQS25_N (io), C12 PT31A/TDQ34 (io), C13 PT31B/TDQ34 (io), D5 PT4A/VREF1_0/TDQ7 (io), D6 PT5A/TDQ7 (io), D8 PT8A/TDQ7 (io), D12 PT25A/TDQS25_P (io), D13 PT37B/PCLKC0_0/TDQ34 (io), E8 PT16A/TDQS16_P (io), E9 PT16B/TDQS16_N (io), E11 PT28A/TDQ25 (io), E12 PT28B/TDQ25 (io), E13 PT37A/PCLKT0_0/TDQ34 (io), F7 PT13A/TDQ16 (io), F8 PT13B/TDQ16 (io), F9 PT19B/TDQ16 (io), F11 PT22A/TDQ25 (io), F12 PT34A/TDQS34_P (io), G7 PT10A/TDQ7 (io), G8 PT19A/TDQ16 (io), G11 PT22B/TDQ25 (io), G13 PT34B/TDQS34_N (io), H8 PT10B/TDQ7 (io)
part B pins: A17 PT44A/TDQ43 (io), A18 PT44B/TDQ43 (io), A19 PT47A/TDQ52 (io), A20 PT47B/TDQ52 (io), A21 PT50A/TDQ52 (io), A22 PT59B/TDQ61 (io), B15 PT38B/TDQ43 (io), B16 PT41A/TDQ43 (io), B17 PT46A/TDQ43 (io), B19 PT53B/TDQ52 (io), B20 PT50B/TDQ52 (io), B21 PT59A/TDQ61 (io), C14 PT40A/PCLKT1_0/TDQ43 (io), C15 PT38A/TDQ43 (io), C16 PT41B/TDQ43 (io), C17 PT46B/TDQ43 (io), C20 PT53A/TDQ52 (io), C21 PT62B/TDQ61 (io), C22 PT62A/TDQ61 (io), D14 PT40B/PCLKC1_0/TDQ43 (io), D15 PT55A/TDQ52 (io), D17 PT58B/TDQ61 (io), E14 PT49A/TDQ52 (io), E15 PT49B/TDQ52 (io), E16 PT55B/TDQ52 (io), E18 PT58A/TDQ61 (io), E19 PT56A/TDQ61 (io), E20 PT56B/TDQ61 (io), F13 PT43A/TDQS43_P (io), F14 PT43B/TDQS43_N (io), F15 PT52B/TDQS52_N (io), F19 PT61A/TDQS61_P (io), F20 PT61B/TDQS61_N (io), G14 PT52A/TDQS52_P (io), G18 PT64A/VREF1_1/TDQ61 (io), G19 PT64B/VREF2_1/TDQ61 (io)
part C pins: G25 PR18B/RDQ23 (io), H24 PR18A/RDQ23 (io), J24 PR21B/RDQ23 (io), J26 PR27A/RDQ32 (io), K19 PR30A/RUM0_GDLLT_FB_A/RDQ32 (io), K24 PR21A/RDQ23 (io), K25 PR24B/RDQ23 (io), K26 PR27B/RDQ32 (io), L19 PR30B/RUM0_GDLLT_FB_B/RDQ32 (io), L20 PR20A/RDQ23 (io), L24 PR24A/RDQ23 (io), L25 PR33A/RDQ32 (io), L26 PR33B/RDQ32 (io), M21 PR20B/RDQ23 (io), M22 PR26A/VREF1_2/RDQ23 (io), M23 PR23A/RDQS23_P (io), M24 PR23B/RDQS23_N (io), M25 PR35E_A/RUM0_GPLLT_FB_A/RDQ32 (in), M26 PR35E_B/RUM0_GPLLT_FB_B/RDQ32 (in), N21 PR26B/VREF2_2/RDQ23 (io), N22 PR29B/RUM0_GDLLT_IN_B/RDQ32 (io), N23 PR29A/RUM0_GDLLT_IN_A/RDQ32 (io), P21 PR35A/PCLKT2_0/RDQ32 (io), P22 PR35B/PCLKC2_0/RDQ32 (io), P23 PR32A/RDQS32_P (io), R21 PR35E_D/RUM0_GPLLT_IN_B/RDQ32 (in), R22 PR32B/RDQS32_N (io), T21 PR35E_C/RUM0_GPLLT_IN_A/RDQ32 (in)
part D pins: AA20 PB73B (io), AA22 PR68B/RDQS68_N (io), AA23 PR62B/RDQ59 (io), AA24 PR62A/RDQ59 (io), AA25 PR54A/RDQ59 (io), AA26 PR57A/RDQ59 (io), AB20 PB67A (io), AB21 PB67B (io), AB22 PB71B (io), AB23 PB71A (io), AB24 PR66A/RDQ68 (io), AB26 PR57B/RDQ59 (io), AC23 PB65B (io), AC24 PR66B/RDQ68 (io), AC25 PR63B/RDQ68 (io), AC26 PR63A/RDQ68 (io), AD23 PB65A (io), AD24 PR71A/RDQ68 (io), AD25 PR60B/RDQ59 (io), AD26 PR60A/RDQ59 (io), AE23 PB68B (io), AE24 PR71B/RDQ68 (io), AE25 PR69A/RDQ68 (io), AF23 PB68A (io), AF24 PR69B/RDQ68 (io), N24 PR36A/RDQ41 (io), N25 PR36B/RDQ41 (io), N26 PR42A/RDQ41 (io), P24 PR39A/RDQ41 (io), P26 PR42B/RDQ41 (io), R23 PR41A/RDQS41_P (io), R24 PR39B/RDQ41 (io), R25 PR45A/RDQ50 (io), R26 PR45B/RDQ50 (io), T20 PR44A/VREF1_3/RDQ41 (io), T22 PR41B/RDQS41_N (io), T24 PR48B/RDQ50 (io), T25 PR48A/RDQ50 (io), T26 PR51A/RDQ50 (io), U19 PR38B/PCLKC3_0/RDQ41 (io), U20 PR38A/PCLKT3_0/RDQ41 (io), U21 PR44B/VREF2_3/RDQ41 (io), U22 PR53B/RDQ50 (io), U23 PR53A/RDQ50 (io), U24 PR47A/RDQ50 (io), U25 PR53E_A/RLM1_GPLLT_FB_A/RDQ50 (in), U26 PR51B/RDQ50 (io), V20 PR53E_C/RLM1_GPLLT_IN_A/RDQ50 (in), V21 PR50A/RDQS50_P (io), V22 PR50B/RDQS50_N (io), V24 PR47B/RDQ50 (io), V26 PR53E_B/RLM1_GPLLT_FB_B/RDQ50 (in), W17 PB70A (io), W19 PR53E_D/RLM1_GPLLT_IN_B/RDQ50 (in), W20 PR59B/RDQS59_N (io), W21 PR59A/RDQS59_P (io), W22 PR56B/RDQ59 (io), W23 PR56A/RDQ59 (io), Y19 PR65A/RDQ68 (io), Y20 PR65B/RDQ68 (io), Y21 PB73A (io), Y22 PR68A/RDQS68_P (io), Y24 PR54B/RDQ59 (io)
part E pins: AA1 PL54A/LDQ59 (io), AA2 PL54B/LDQ59 (io), AA3 PL63A/LDQ68 (io), AA4 PL63B/LDQ68 (io), AA5 PL62B/LDQ59 (io), AA7 PB4A (io), AB1 PL57A/LDQ59 (io), AB3 PL66A/LDQ68 (io), AB4 PL66B/LDQ68 (io), AB5 PL65A/LDQ68 (io), AB6 PL65B/LDQ68 (io), AB7 PB4B (io), AC1 PL57B/LDQ59 (io), AC2 PL60A/LDQ59 (io), AC3 PL60B/LDQ59 (io), AC4 PB5B (io), AD1 PL69A/LDQ68 (io), AD2 PL69B/LDQ68 (io), AD3 PB5A (io), AD4 PB2A (io), AE2 PB8A (io), AE3 PB2B (io), AE4 PB11A (io), AF3 PB8B (io), AF4 PB11B (io), N3 PL41A/LDQS41_P (io), N5 PL38A/PCLKT6_0/LDQ41 (io), N6 PL38B/PCLKC6_0/LDQ41 (io), P1 PL36A/LDQ41 (io), P2 PL36B/LDQ41 (io), P3 PL41B/LDQS41_N (io), P4 PL45A/LDQ50 (io), P5 PL44A/VREF1_6/LDQ41 (io), P6 PL44B/VREF2_6/LDQ41 (io), R1 PL39A/LDQ41 (io), R2 PL39B/LDQ41 (io), R3 PL45B/LDQ50 (io), R4 PL50B/LDQS50_N (io), R5 PL47A/LDQ50 (io), R6 PL47B/LDQ50 (io), T1 PL48A/LDQ50 (io), T2 PL42A/LDQ41 (io), T3 PL50A/LDQS50_P (io), T7 PL53A/LDQ50 (io), T8 PL53B/LDQ50 (io), U1 PL48B/LDQ50 (io), U2 PL51B/LDQ50 (io), U3 PL42B/LDQ41 (io), U4 PL53E_C/LLM1_GPLLT_IN_A (in), V1 PL51A/LDQ50 (io), V5 PL53E_D/LLM1_GPLLT_IN_B (in), V6 PL56A/LDQ59 (io), V7 PL56B/LDQ59 (io), V10 PB13A (io), W1 PL53E_A/LLM1_GPLLT_FB_A (in), W2 PL53E_B/LLM1_GPLLT_FB_B (in), W6 PL59B/LDQS59_N (io), W7 PL59A/LDQS59_P (io), W8 PL71A/LDQ68 (io), W9 PL71B/LDQ68 (io), W10 PB13B (io), Y5 PL62A/LDQ59 (io), Y6 PL68A/LDQS68_P (io), Y7 PL68B/LDQS68_N (io), Y8 PB10A (io)
part F pins: B2 PL9A/LDQ14 (io), B3 PL9B/LDQ14 (io), C1 PL21B/LDQ23 (io), C3 PL12A/LDQ14 (io), D1 PL21A/LDQ23 (io), D3 PL12B/LDQ14 (io), D4 PL11A/LDQ14 (io), E1 PL24A/LDQ23 (io), E3 PL15A/LDQ14 (io), E4 PL11B/LDQ14 (io), F1 PL24B/LDQ23 (io), F4 PL15B/LDQ14 (io), G1 PL27B/LDQ32 (io), G2 PL6A (io), G3 PL6B (io), G5 PL14A/LDQS14_P (io), G6 PL14B/LDQS14_N (io), H1 PL30A/LUM0_GDLLT_FB_A/LDQ32 (io), H2 PL27A/LDQ32 (io), H5 PL8A (io), H6 PL17A/LDQ14 (io), J1 PL30B/LUM0_GDLLT_FB_B/LDQ32 (io), J3 PL20B/LDQ23 (io), J4 PL20A/LDQ23 (io), J5 PL8B (io), J6 PL17B/LDQ14 (io), K1 PL18B/LDQ23 (io), K2 PL18A/LDQ23 (io), K3 PL29A/LUM0_GDLLT_IN_A/LDQ32 (io), K4 PL23A/LDQS23_P (io), K5 PL23B/LDQS23_N (io), K6 PL5B (io), K7 PL5A (io), L1 PL33B/LDQ32 (io), L2 PL33A/LDQ32 (io), L3 PL29B/LUM0_GDLLT_IN_B/LDQ32 (io), L5 PL26A/VREF1_7/LDQ23 (io), L6 PL26B/VREF2_7/LDQ23 (io), M1 PL35E_A/LUM0_GPLLT_FB_A (in), M2 PL35E_D/LUM0_GPLLT_IN_B (in), M3 PL35E_C/LUM0_GPLLT_IN_A (in), M4 PL35A/PCLKT7_0/LDQ32 (io), M5 PL32A/LDQS32_P (io), M6 PL32B/LDQS32_N (io), N1 PL35E_B/LUM0_GPLLT_FB_B (in), N4 PL35B/PCLKC7_0/LDQ32 (io)
part G pins: B25 PR15A/D5 (io), C23 PR6A (io), C24 PR6B/DI/CSSPI0N/CSSPIN (io), C25 PR9B/MCLK (io), C26 PR15B/D6/SPID1 (io), D21 PT68B (io), D22 PT68A (io), D23 PR11B/D0/SPIFASTN (io), D24 PR9A/DOUT/CSON/CSSPI1N (io), D25 PR12A/D1 (io), D26 PR12B/D2 (io), E22 PT71B (io), E23 PT71A (io), E24 PR11A/WRITEN (io), F22 PT73B (io), F23 PT73A (io), G20 PT70A (io), G21 PT70B (io), G22 PR8A/CS1N/HOLDN/CONT2N (io), H22 PR8B/CSN/SN/CONT1N (io), J21 PR14A/D3/SI (io), J22 PR14B/D4/SO (io), K20 PR17A/D7/SPID0 (io), K21 PR17B/BUSY/SISPI (io)
part H pins: A23 CFG1 (in), A24 CCLK (in), B23 CFG0 (in), B24 DONE (io), E5 TCK (in), E6 TMS (in), E7 TDO (out), E21 CFG2 (in), F5 TDI (in), H21 INITN (io), J20 PROGRAMN (in)
part I pins: AC17 PCSA_REFCLKP (in), AC18 PCSA_REFCLKN (in), AD14 PCSA_HDINP3 (in), AD15 PCSA_HDINN3 (in), AD16 PCSA_HDINN2 (in), AD17 PCSA_HDINP2 (in), AD18 PCSA_HDINP1 (in), AD19 PCSA_HDINN1 (in), AD20 PCSA_HDINN0 (in), AD21 PCSA_HDINP0 (in), AF14 PCSA_HDOUTP3 (out), AF15 PCSA_HDOUTN3 (out), AF16 PCSA_HDOUTN2 (out), AF17 PCSA_HDOUTP2 (out), AF18 PCSA_HDOUTP1 (out), AF19 PCSA_HDOUTN1 (out), AF20 PCSA_HDOUTN0 (out), AF21 PCSA_HDOUTP0 (out)
part J pins: AA15 PCSA_VCCIB2 (power), AA16 PCSA_VCCIB1 (power), AA17 PCSA_VCCOB0 (power), AB14 PCSA_VCCIB3 (power), AB15 PCSA_VCCOB3 (power), AB16 PCSA_VCCOB2 (power), AB17 PCSA_VCCOB1 (power), AB18 PCSA_VCCIB0 (power), H7 VCCJ (power), H12 VCCIO0 (power), H13 VCCIO0 (power), H14 VCCIO1 (power), H15 VCCIO1 (power), H19 VCCIO8 (power), H20 VCCIO8 (power), J9 VCCAUX (power), J10 VCCIO0 (power), J11 VCCAUX (power), J13 VCCIO0 (power), J14 VCCIO1 (power), J16 VCCAUX (power), J17 VCCIO1 (power), J18 VCCAUX (power), K9 VCCIO7 (power), K11 VCC (power), K12 VCC (power), K13 VCC (power), K14 VCC (power), K15 VCC (power), K16 VCC (power), K18 VCCIO2 (power), L9 VCCAUX (power), L10 VCC (power), L11 VCC (power), L12 VCC (power), L15 VCC (power), L16 VCC (power), L17 VCC (power), L18 VCCAUX (power), M8 VCCIO7 (power), M10 VCCPLL_L (power), M11 VCC (power), M16 VCC (power), M17 VCCPLL_R (power), M19 VCCIO2 (power), N7 VTT7 (power), N8 VCCIO7 (power), N9 VCCIO7 (power), N10 VCC (power), N17 VCC (power), N18 VCCIO2 (power), N19 VCCIO2 (power), N20 VTT2 (power), P7 VTT6 (power), P8 VCCIO6 (power), P9 VCCIO6 (power), P10 VCC (power), P17 VCC (power), P18 VCCIO3 (power), P19 VCCIO3 (power), P20 VTT3 (power), R8 VCCIO6 (power), R10 VCCPLL_L (power), R11 VCC (power), R16 VCC (power), R17 VCCPLL_R (power), R19 VCCIO3 (power), T9 VCCAUX (power), T10 VCC (power), T11 VCC (power), T12 VCC (power), T15 VCC (power), T16 VCC (power), T17 VCC (power), T18 VCCAUX (power), U9 VCCIO6 (power), U11 VCC (power), U12 VCC (power), U13 VCC (power), U14 VCC (power), U15 VCC (power), U16 VCC (power), U18 VCCIO3 (power), V9 VCCAUX (power), V11 VCCAUX (power), V13 VCCA (power), V14 VCCA (power), V16 VCCAUX (power), V18 VCCAUX (power), W12 VCCA (power), W13 VCCA (power), W14 VCCA (power), W15 VCCA (power), Y13 VCCA (power), Y14 VCCA (power)
part K pins: A2 GND (power), A25 GND (power), AA6 GND (power), AA8 GND (power), AA9 GND (power), AA13 GND (power), AA14 GND (power), AA18 GND (power), AA19 GND (power), AA21 GND (power), AB2 GND (power), AB8 GND (power), AB19 GND (power), AB25 GND (power), AC5 GND (power), AC6 GND (power), AC7 GND (power), AC8 GND (power), AC11 GND (power), AC12 GND (power), AC13 GND (power), AC14 GND (power), AC15 GND (power), AC16 GND (power), AC19 GND (power), AC20 GND (power), AC21 GND (power), AC22 GND (power), AD5 GND (power), AD22 GND (power), AE1 GND (power), AE5 GND (power), AE6 GND (power), AE7 GND (power), AE8 GND (power), AE9 GND (power), AE10 GND (power), AE11 GND (power), AE12 GND (power), AE13 GND (power), AE14 GND (power), AE15 GND (power), AE16 GND (power), AE17 GND (power), AE18 GND (power), AE19 GND (power), AE20 GND (power), AE21 GND (power), AE22 GND (power), AE26 GND (power), AF2 GND (power), AF5 GND (power), AF22 GND (power), AF25 GND (power), B1 GND (power), B5 GND (power), B9 GND (power), B14 GND (power), B18 GND (power), B22 GND (power), B26 GND (power), D7 GND (power), D11 GND (power), D16 GND (power), D20 GND (power), E2 GND (power), E25 GND (power), F6 GND (power), F21 GND (power), G4 GND (power), G12 GND (power), G15 GND (power), G23 GND (power), H9 GND (power), H18 GND (power), J2 GND (power), J8 GND (power), J12 GND (power), J15 GND (power), J19 GND (power), J25 GND (power), K10 GND (power), K17 GND (power), L4 GND (power), L13 GND (power), L14 GND (power), L23 GND (power), M7 GND (power), M9 GND (power), M12 GND (power), M13 GND (power), M14 GND (power), M15 GND (power), M18 GND (power), M20 GND (power), N2 GND (power), N11 GND (power), N12 GND (power), N13 GND (power), N14 GND (power), N15 GND (power), N16 GND (power), P11 GND (power), P12 GND (power), P13 GND (power), P14 GND (power), P15 GND (power), P16 GND (power), P25 GND (power), R7 GND (power), R9 GND (power), R12 GND (power), R13 GND (power), R14 GND (power), R15 GND (power), R20 GND (power), T4 GND (power), T13 GND (power), T14 GND (power), T19 GND (power), T23 GND (power), U17 GND (power), V2 GND (power), V12 GND (power), V15 GND (power), V19 GND (power), V25 GND (power), W11 GND (power), W16 GND (power), Y4 GND (power), Y9 GND (power), Y10 GND (power), Y11 GND (power), Y12 GND (power), Y15 GND (power), Y16 GND (power), Y17 GND (power), Y18 GND (power), Y23 GND (power)
part L pins: A8 NC, AA10 NC, AA11 NC, AA12 NC, AB9 NC, AB10 NC, AB11 NC, AB12 NC, AB13 NC, AC9 NC, AC10 NC, AD6 NC, AD7 NC, AD8 NC, AD9 NC, AD10 NC, AD11 NC, AD12 NC, AD13 NC, AF6 NC, AF7 NC, AF8 NC, AF9 NC, AF10 NC, AF11 NC, AF12 NC, AF13 NC, B8 NC, C2 NC, C9 NC, C10 NC, C18 NC, C19 NC, D2 NC, D9 NC, D10 NC, D18 NC, D19 NC, E10 NC, E17 NC, E26 NC, F2 NC, F3 NC, F10 NC, F16 NC, F17 NC, F18 NC, F24 NC, F25 NC, F26 NC, G9 NC, G10 NC, G16 NC, G17 NC, G24 NC, G26 NC, H3 NC, H4 NC, H10 NC, H11 NC, H16 NC, H17 NC, H23 NC, H25 NC, H26 NC, J7 NC, J23 NC, K8 NC, K22 NC, K23 NC, L7 NC, L8 NC, L21 NC, L22 NC, T5 NC, T6 NC, U5 NC, U6 NC, U7 NC, U8 NC, V3 NC, V4 NC, V17 NC, V23 NC, W3 NC, W4 NC, W5 NC, W18 NC, W24 NC, W25 NC, W26 NC, Y1 NC, Y2 NC, Y3 NC, Y25 NC, Y26 NC
part M pins: R18 XRES, U10 RESERVE, V8 RESERVE
part A text: BANK 0
part B text: BANK 1
part C text: BANK 2
part D text: BANK 3
part E text: BANK 6
part F text: BANK 7
part G text: BANK 8

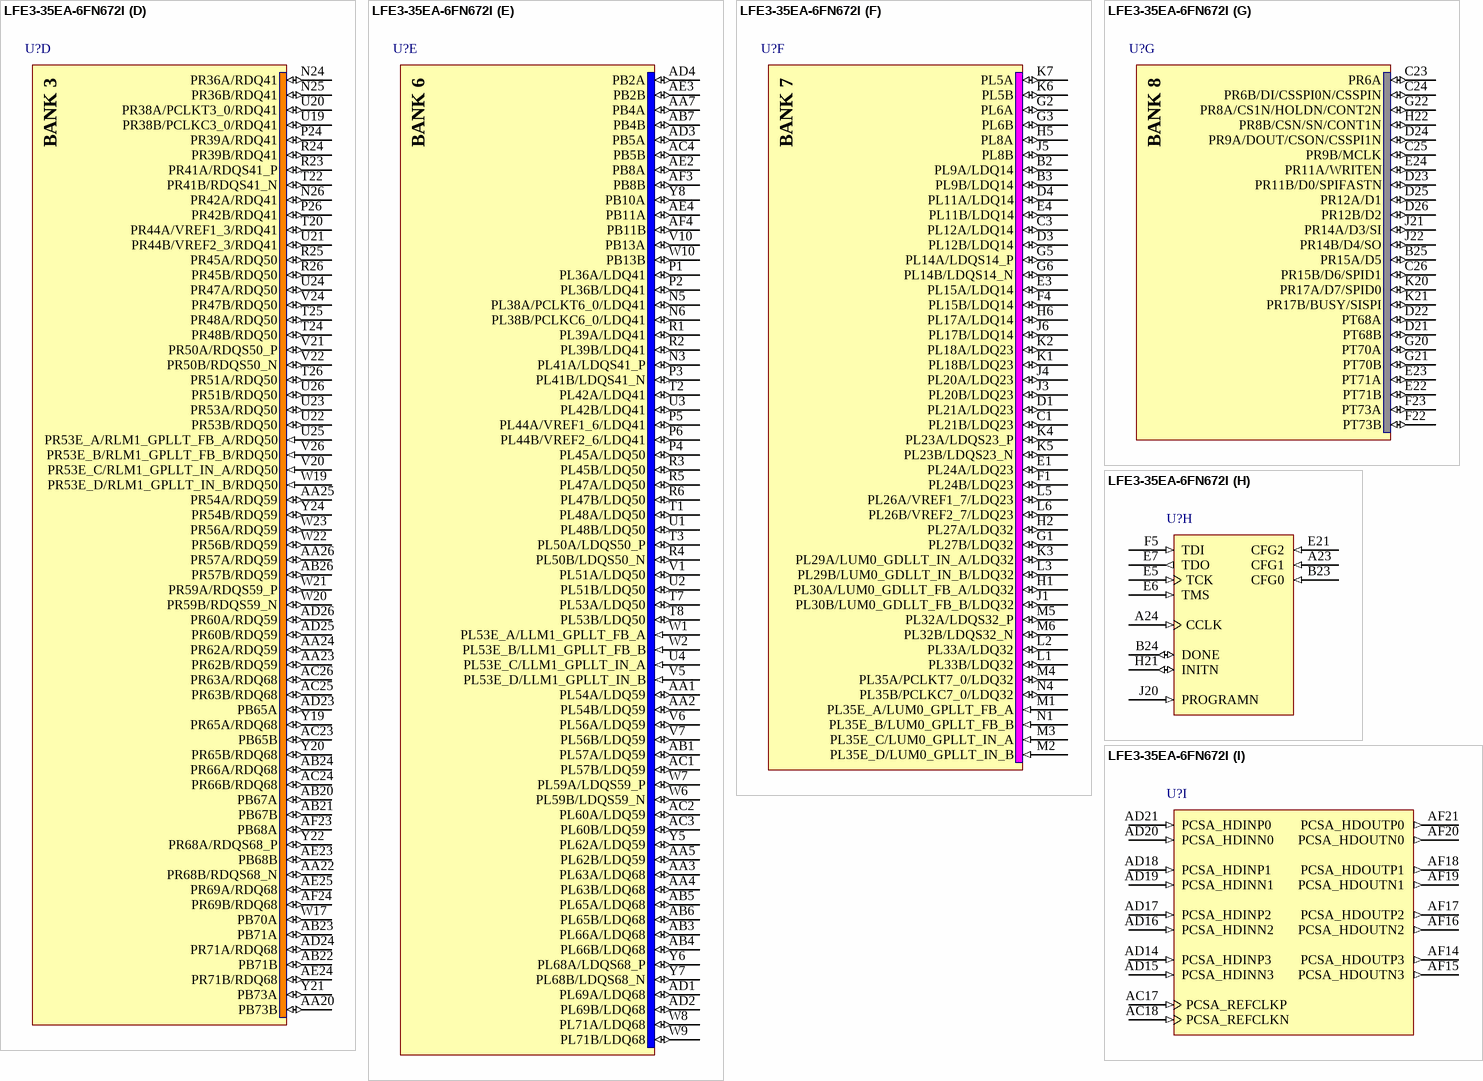
[diagram p20: symbol LFE3-35EA-6FN672I]

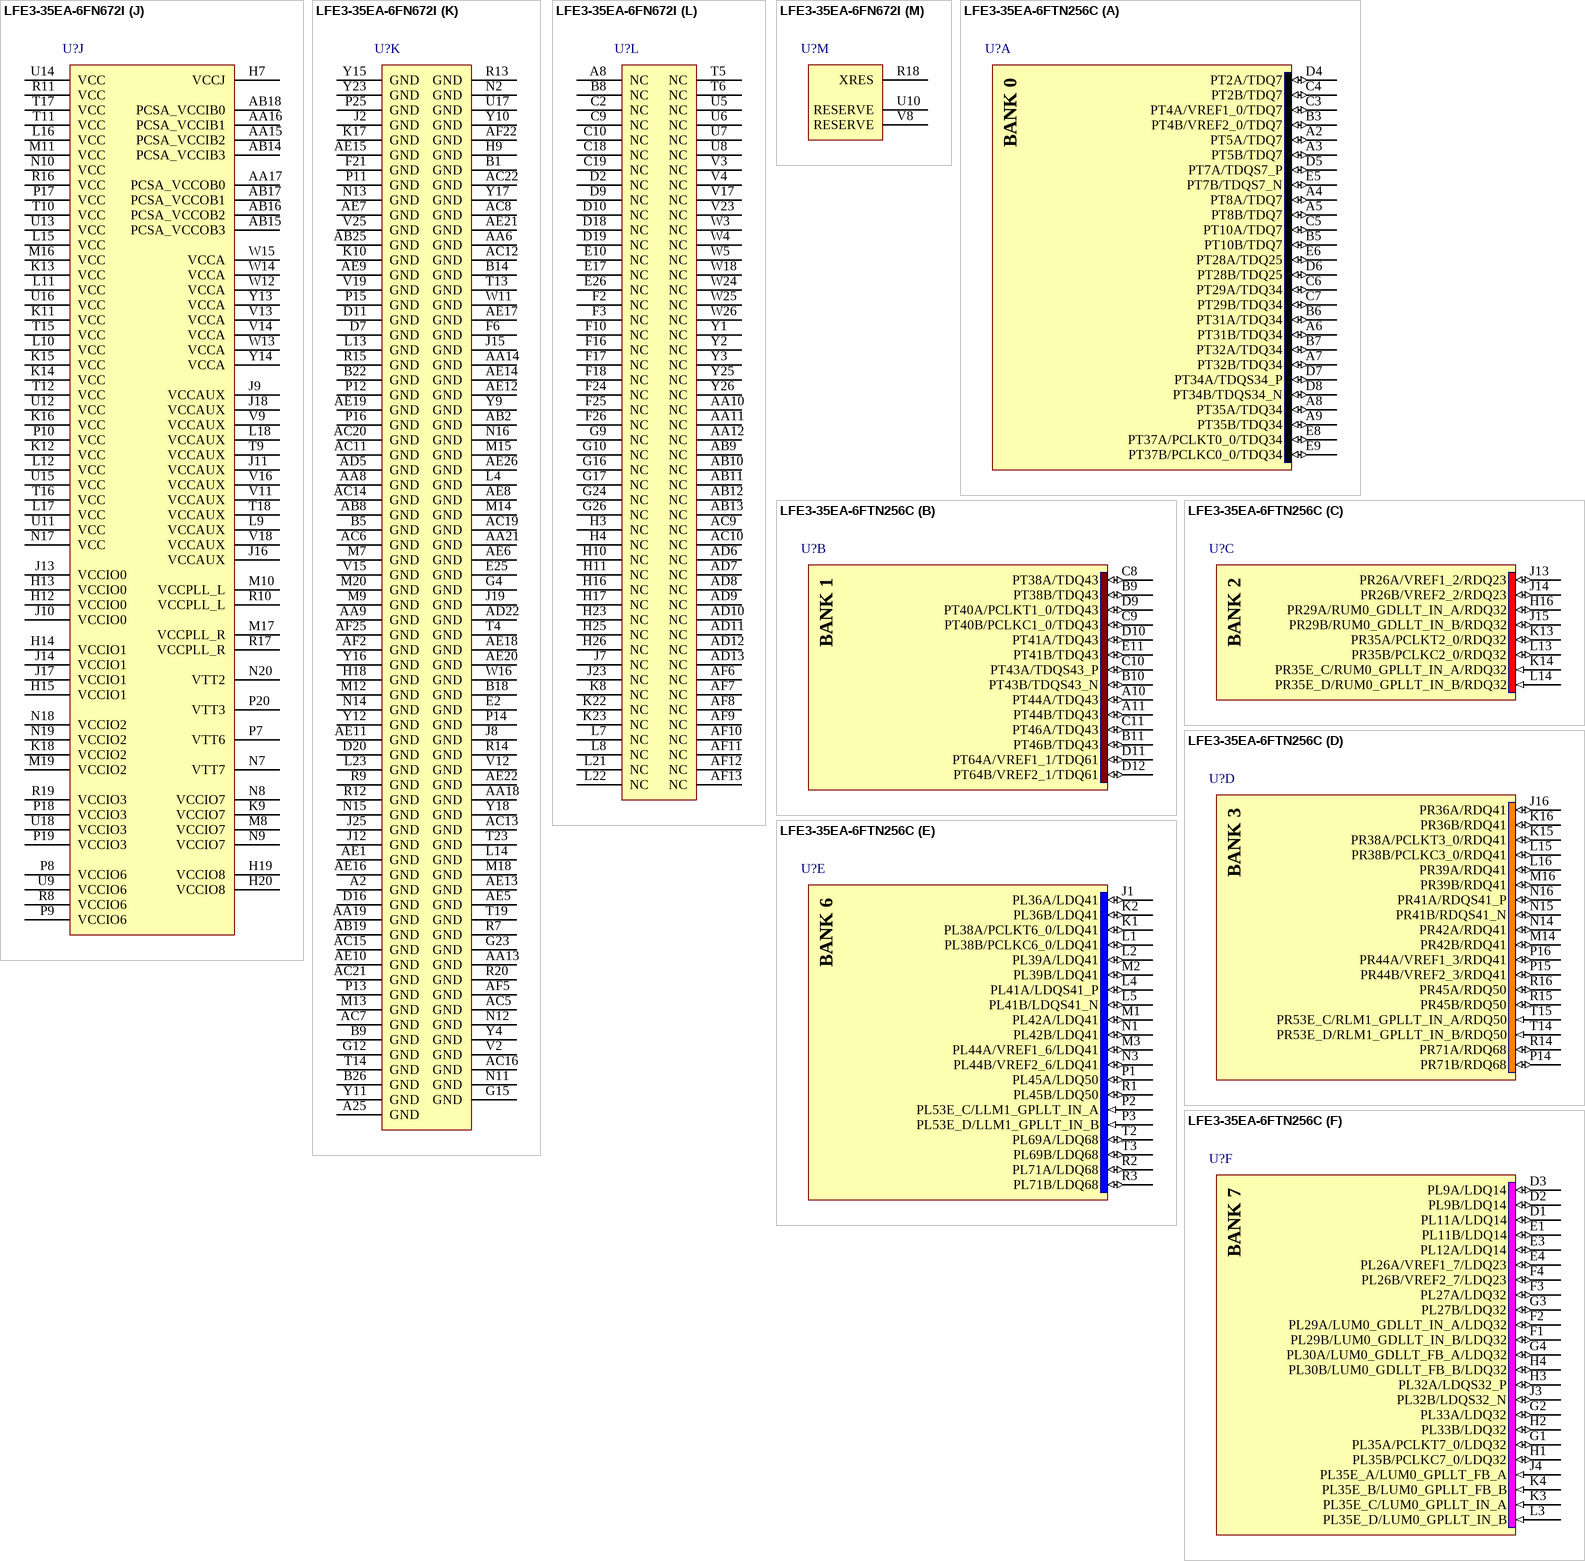
[diagram p21: symbols LFE3-35EA-6FN672I to LFE3-35EA-6FTN256C]

## LFE3-35EA-6FN672I
designator U?
ECP3 1.2V FPGA, 310 I/Os, 33K LUTs, 672-Pin BGA, Speed Grade 6, Industrial Grade, Pb-Free; DatasheetVersion: Ver 01.9EA, Jul-2011; PackageVersion: ver02.8, Jul-2011; PackageReference: fpBGA672; PackageDescription: 672-Ball Fine Pitch Ball Grid Array (fpBGA672); ComponentLink1Description: Manufacturer URL; ComponentLink1URL: http://www.latticesemi.com/; ComponentLink2Description: Datasheet; ComponentLink2URL: http://www.latticesemi.com/documents/ds1021ea.pdf; ComponentLink3Description: Package Specification; ComponentLink3URL: http://www.latticesemi.com/lit/docs/package/pkg.pdf
footprint fpBGA672 (BGA, 672-Leads, Body 27x27mm, Pitch 1mm)
part A pins: A3 PT11A/TDQ16 (io), A4 PT11B/TDQ16 (io), A5 PT17A/TDQ16 (io), A6 PT17B/TDQ16 (io), A7 PT14B/TDQ16 (io), A9 PT20A/TDQ25 (io), A10 PT23A/TDQ25 (io), A11 PT23B/TDQ25 (io), A12 PT29A/TDQ34 (io), A13 PT32A/TDQ34 (io), A14 PT32B/TDQ34 (io), A15 PT35A/TDQ34 (io), A16 PT35B/TDQ34 (io), B4 PT7B/TDQS7_N (io), B6 PT2A/TDQ7 (io), B7 PT14A/TDQ16 (io), B10 PT20B/TDQ25 (io), B11 PT26A/TDQ25 (io), B12 PT26B/TDQ25 (io), B13 PT29B/TDQ34 (io), C4 PT4B/VREF2_0/TDQ7 (io), C5 PT7A/TDQS7_P (io), C6 PT5B/TDQ7 (io), C7 PT2B/TDQ7 (io), C8 PT8B/TDQ7 (io), C11 PT25B/TDQS25_N (io), C12 PT31A/TDQ34 (io), C13 PT31B/TDQ34 (io), D5 PT4A/VREF1_0/TDQ7 (io), D6 PT5A/TDQ7 (io), D8 PT8A/TDQ7 (io), D12 PT25A/TDQS25_P (io), D13 PT37B/PCLKC0_0/TDQ34 (io), E8 PT16A/TDQS16_P (io), E9 PT16B/TDQS16_N (io), E11 PT28A/TDQ25 (io), E12 PT28B/TDQ25 (io), E13 PT37A/PCLKT0_0/TDQ34 (io), F7 PT13A/TDQ16 (io), F8 PT13B/TDQ16 (io), F9 PT19B/TDQ16 (io), F11 PT22A/TDQ25 (io), F12 PT34A/TDQS34_P (io), G7 PT10A/TDQ7 (io), G8 PT19A/TDQ16 (io), G11 PT22B/TDQ25 (io), G13 PT34B/TDQS34_N (io), H8 PT10B/TDQ7 (io)
part B pins: A17 PT44A/TDQ43 (io), A18 PT44B/TDQ43 (io), A19 PT47A/TDQ52 (io), A20 PT47B/TDQ52 (io), A21 PT50A/TDQ52 (io), A22 PT59B/TDQ61 (io), B15 PT38B/TDQ43 (io), B16 PT41A/TDQ43 (io), B17 PT46A/TDQ43 (io), B19 PT53B/TDQ52 (io), B20 PT50B/TDQ52 (io), B21 PT59A/TDQ61 (io), C14 PT40A/PCLKT1_0/TDQ43 (io), C15 PT38A/TDQ43 (io), C16 PT41B/TDQ43 (io), C17 PT46B/TDQ43 (io), C20 PT53A/TDQ52 (io), C21 PT62B/TDQ61 (io), C22 PT62A/TDQ61 (io), D14 PT40B/PCLKC1_0/TDQ43 (io), D15 PT55A/TDQ52 (io), D17 PT58B/TDQ61 (io), E14 PT49A/TDQ52 (io), E15 PT49B/TDQ52 (io), E16 PT55B/TDQ52 (io), E18 PT58A/TDQ61 (io), E19 PT56A/TDQ61 (io), E20 PT56B/TDQ61 (io), F13 PT43A/TDQS43_P (io), F14 PT43B/TDQS43_N (io), F15 PT52B/TDQS52_N (io), F19 PT61A/TDQS61_P (io), F20 PT61B/TDQS61_N (io), G14 PT52A/TDQS52_P (io), G18 PT64A/VREF1_1/TDQ61 (io), G19 PT64B/VREF2_1/TDQ61 (io)
part C pins: G25 PR18B/RDQ23 (io), H24 PR18A/RDQ23 (io), J24 PR21B/RDQ23 (io), J26 PR27A/RDQ32 (io), K19 PR30A/RUM0_GDLLT_FB_A/RDQ32 (io), K24 PR21A/RDQ23 (io), K25 PR24B/RDQ23 (io), K26 PR27B/RDQ32 (io), L19 PR30B/RUM0_GDLLT_FB_B/RDQ32 (io), L20 PR20A/RDQ23 (io), L24 PR24A/RDQ23 (io), L25 PR33A/RDQ32 (io), L26 PR33B/RDQ32 (io), M21 PR20B/RDQ23 (io), M22 PR26A/VREF1_2/RDQ23 (io), M23 PR23A/RDQS23_P (io), M24 PR23B/RDQS23_N (io), M25 PR35E_A/RUM0_GPLLT_FB_A/RDQ32 (in), M26 PR35E_B/RUM0_GPLLT_FB_B/RDQ32 (in), N21 PR26B/VREF2_2/RDQ23 (io), N22 PR29B/RUM0_GDLLT_IN_B/RDQ32 (io), N23 PR29A/RUM0_GDLLT_IN_A/RDQ32 (io), P21 PR35A/PCLKT2_0/RDQ32 (io), P22 PR35B/PCLKC2_0/RDQ32 (io), P23 PR32A/RDQS32_P (io), R21 PR35E_D/RUM0_GPLLT_IN_B/RDQ32 (in), R22 PR32B/RDQS32_N (io), T21 PR35E_C/RUM0_GPLLT_IN_A/RDQ32 (in)
part D pins: AA20 PB73B (io), AA22 PR68B/RDQS68_N (io), AA23 PR62B/RDQ59 (io), AA24 PR62A/RDQ59 (io), AA25 PR54A/RDQ59 (io), AA26 PR57A/RDQ59 (io), AB20 PB67A (io), AB21 PB67B (io), AB22 PB71B (io), AB23 PB71A (io), AB24 PR66A/RDQ68 (io), AB26 PR57B/RDQ59 (io), AC23 PB65B (io), AC24 PR66B/RDQ68 (io), AC25 PR63B/RDQ68 (io), AC26 PR63A/RDQ68 (io), AD23 PB65A (io), AD24 PR71A/RDQ68 (io), AD25 PR60B/RDQ59 (io), AD26 PR60A/RDQ59 (io), AE23 PB68B (io), AE24 PR71B/RDQ68 (io), AE25 PR69A/RDQ68 (io), AF23 PB68A (io), AF24 PR69B/RDQ68 (io), N24 PR36A/RDQ41 (io), N25 PR36B/RDQ41 (io), N26 PR42A/RDQ41 (io), P24 PR39A/RDQ41 (io), P26 PR42B/RDQ41 (io), R23 PR41A/RDQS41_P (io), R24 PR39B/RDQ41 (io), R25 PR45A/RDQ50 (io), R26 PR45B/RDQ50 (io), T20 PR44A/VREF1_3/RDQ41 (io), T22 PR41B/RDQS41_N (io), T24 PR48B/RDQ50 (io), T25 PR48A/RDQ50 (io), T26 PR51A/RDQ50 (io), U19 PR38B/PCLKC3_0/RDQ41 (io), U20 PR38A/PCLKT3_0/RDQ41 (io), U21 PR44B/VREF2_3/RDQ41 (io), U22 PR53B/RDQ50 (io), U23 PR53A/RDQ50 (io), U24 PR47A/RDQ50 (io), U25 PR53E_A/RLM1_GPLLT_FB_A/RDQ50 (in), U26 PR51B/RDQ50 (io), V20 PR53E_C/RLM1_GPLLT_IN_A/RDQ50 (in), V21 PR50A/RDQS50_P (io), V22 PR50B/RDQS50_N (io), V24 PR47B/RDQ50 (io), V26 PR53E_B/RLM1_GPLLT_FB_B/RDQ50 (in), W17 PB70A (io), W19 PR53E_D/RLM1_GPLLT_IN_B/RDQ50 (in), W20 PR59B/RDQS59_N (io), W21 PR59A/RDQS59_P (io), W22 PR56B/RDQ59 (io), W23 PR56A/RDQ59 (io), Y19 PR65A/RDQ68 (io), Y20 PR65B/RDQ68 (io), Y21 PB73A (io), Y22 PR68A/RDQS68_P (io), Y24 PR54B/RDQ59 (io)
part E pins: AA1 PL54A/LDQ59 (io), AA2 PL54B/LDQ59 (io), AA3 PL63A/LDQ68 (io), AA4 PL63B/LDQ68 (io), AA5 PL62B/LDQ59 (io), AA7 PB4A (io), AB1 PL57A/LDQ59 (io), AB3 PL66A/LDQ68 (io), AB4 PL66B/LDQ68 (io), AB5 PL65A/LDQ68 (io), AB6 PL65B/LDQ68 (io), AB7 PB4B (io), AC1 PL57B/LDQ59 (io), AC2 PL60A/LDQ59 (io), AC3 PL60B/LDQ59 (io), AC4 PB5B (io), AD1 PL69A/LDQ68 (io), AD2 PL69B/LDQ68 (io), AD3 PB5A (io), AD4 PB2A (io), AE2 PB8A (io), AE3 PB2B (io), AE4 PB11A (io), AF3 PB8B (io), AF4 PB11B (io), N3 PL41A/LDQS41_P (io), N5 PL38A/PCLKT6_0/LDQ41 (io), N6 PL38B/PCLKC6_0/LDQ41 (io), P1 PL36A/LDQ41 (io), P2 PL36B/LDQ41 (io), P3 PL41B/LDQS41_N (io), P4 PL45A/LDQ50 (io), P5 PL44A/VREF1_6/LDQ41 (io), P6 PL44B/VREF2_6/LDQ41 (io), R1 PL39A/LDQ41 (io), R2 PL39B/LDQ41 (io), R3 PL45B/LDQ50 (io), R4 PL50B/LDQS50_N (io), R5 PL47A/LDQ50 (io), R6 PL47B/LDQ50 (io), T1 PL48A/LDQ50 (io), T2 PL42A/LDQ41 (io), T3 PL50A/LDQS50_P (io), T7 PL53A/LDQ50 (io), T8 PL53B/LDQ50 (io), U1 PL48B/LDQ50 (io), U2 PL51B/LDQ50 (io), U3 PL42B/LDQ41 (io), U4 PL53E_C/LLM1_GPLLT_IN_A (in), V1 PL51A/LDQ50 (io), V5 PL53E_D/LLM1_GPLLT_IN_B (in), V6 PL56A/LDQ59 (io), V7 PL56B/LDQ59 (io), V10 PB13A (io), W1 PL53E_A/LLM1_GPLLT_FB_A (in), W2 PL53E_B/LLM1_GPLLT_FB_B (in), W6 PL59B/LDQS59_N (io), W7 PL59A/LDQS59_P (io), W8 PL71A/LDQ68 (io), W9 PL71B/LDQ68 (io), W10 PB13B (io), Y5 PL62A/LDQ59 (io), Y6 PL68A/LDQS68_P (io), Y7 PL68B/LDQS68_N (io), Y8 PB10A (io)
part F pins: B2 PL9A/LDQ14 (io), B3 PL9B/LDQ14 (io), C1 PL21B/LDQ23 (io), C3 PL12A/LDQ14 (io), D1 PL21A/LDQ23 (io), D3 PL12B/LDQ14 (io), D4 PL11A/LDQ14 (io), E1 PL24A/LDQ23 (io), E3 PL15A/LDQ14 (io), E4 PL11B/LDQ14 (io), F1 PL24B/LDQ23 (io), F4 PL15B/LDQ14 (io), G1 PL27B/LDQ32 (io), G2 PL6A (io), G3 PL6B (io), G5 PL14A/LDQS14_P (io), G6 PL14B/LDQS14_N (io), H1 PL30A/LUM0_GDLLT_FB_A/LDQ32 (io), H2 PL27A/LDQ32 (io), H5 PL8A (io), H6 PL17A/LDQ14 (io), J1 PL30B/LUM0_GDLLT_FB_B/LDQ32 (io), J3 PL20B/LDQ23 (io), J4 PL20A/LDQ23 (io), J5 PL8B (io), J6 PL17B/LDQ14 (io), K1 PL18B/LDQ23 (io), K2 PL18A/LDQ23 (io), K3 PL29A/LUM0_GDLLT_IN_A/LDQ32 (io), K4 PL23A/LDQS23_P (io), K5 PL23B/LDQS23_N (io), K6 PL5B (io), K7 PL5A (io), L1 PL33B/LDQ32 (io), L2 PL33A/LDQ32 (io), L3 PL29B/LUM0_GDLLT_IN_B/LDQ32 (io), L5 PL26A/VREF1_7/LDQ23 (io), L6 PL26B/VREF2_7/LDQ23 (io), M1 PL35E_A/LUM0_GPLLT_FB_A (in), M2 PL35E_D/LUM0_GPLLT_IN_B (in), M3 PL35E_C/LUM0_GPLLT_IN_A (in), M4 PL35A/PCLKT7_0/LDQ32 (io), M5 PL32A/LDQS32_P (io), M6 PL32B/LDQS32_N (io), N1 PL35E_B/LUM0_GPLLT_FB_B (in), N4 PL35B/PCLKC7_0/LDQ32 (io)
part G pins: B25 PR15A/D5 (io), C23 PR6A (io), C24 PR6B/DI/CSSPI0N/CSSPIN (io), C25 PR9B/MCLK (io), C26 PR15B/D6/SPID1 (io), D21 PT68B (io), D22 PT68A (io), D23 PR11B/D0/SPIFASTN (io), D24 PR9A/DOUT/CSON/CSSPI1N (io), D25 PR12A/D1 (io), D26 PR12B/D2 (io), E22 PT71B (io), E23 PT71A (io), E24 PR11A/WRITEN (io), F22 PT73B (io), F23 PT73A (io), G20 PT70A (io), G21 PT70B (io), G22 PR8A/CS1N/HOLDN/CONT2N (io), H22 PR8B/CSN/SN/CONT1N (io), J21 PR14A/D3/SI (io), J22 PR14B/D4/SO (io), K20 PR17A/D7/SPID0 (io), K21 PR17B/BUSY/SISPI (io)
part H pins: A23 CFG1 (in), A24 CCLK (in), B23 CFG0 (in), B24 DONE (io), E5 TCK (in), E6 TMS (in), E7 TDO (out), E21 CFG2 (in), F5 TDI (in), H21 INITN (io), J20 PROGRAMN (in)
part I pins: AC17 PCSA_REFCLKP (in), AC18 PCSA_REFCLKN (in), AD14 PCSA_HDINP3 (in), AD15 PCSA_HDINN3 (in), AD16 PCSA_HDINN2 (in), AD17 PCSA_HDINP2 (in), AD18 PCSA_HDINP1 (in), AD19 PCSA_HDINN1 (in), AD20 PCSA_HDINN0 (in), AD21 PCSA_HDINP0 (in), AF14 PCSA_HDOUTP3 (out), AF15 PCSA_HDOUTN3 (out), AF16 PCSA_HDOUTN2 (out), AF17 PCSA_HDOUTP2 (out), AF18 PCSA_HDOUTP1 (out), AF19 PCSA_HDOUTN1 (out), AF20 PCSA_HDOUTN0 (out), AF21 PCSA_HDOUTP0 (out)
part J pins: AA15 PCSA_VCCIB2 (power), AA16 PCSA_VCCIB1 (power), AA17 PCSA_VCCOB0 (power), AB14 PCSA_VCCIB3 (power), AB15 PCSA_VCCOB3 (power), AB16 PCSA_VCCOB2 (power), AB17 PCSA_VCCOB1 (power), AB18 PCSA_VCCIB0 (power), H7 VCCJ (power), H12 VCCIO0 (power), H13 VCCIO0 (power), H14 VCCIO1 (power), H15 VCCIO1 (power), H19 VCCIO8 (power), H20 VCCIO8 (power), J9 VCCAUX (power), J10 VCCIO0 (power), J11 VCCAUX (power), J13 VCCIO0 (power), J14 VCCIO1 (power), J16 VCCAUX (power), J17 VCCIO1 (power), J18 VCCAUX (power), K9 VCCIO7 (power), K11 VCC (power), K12 VCC (power), K13 VCC (power), K14 VCC (power), K15 VCC (power), K16 VCC (power), K18 VCCIO2 (power), L9 VCCAUX (power), L10 VCC (power), L11 VCC (power), L12 VCC (power), L15 VCC (power), L16 VCC (power), L17 VCC (power), L18 VCCAUX (power), M8 VCCIO7 (power), M10 VCCPLL_L (power), M11 VCC (power), M16 VCC (power), M17 VCCPLL_R (power), M19 VCCIO2 (power), N7 VTT7 (power), N8 VCCIO7 (power), N9 VCCIO7 (power), N10 VCC (power), N17 VCC (power), N18 VCCIO2 (power), N19 VCCIO2 (power), N20 VTT2 (power), P7 VTT6 (power), P8 VCCIO6 (power), P9 VCCIO6 (power), P10 VCC (power), P17 VCC (power), P18 VCCIO3 (power), P19 VCCIO3 (power), P20 VTT3 (power), R8 VCCIO6 (power), R10 VCCPLL_L (power), R11 VCC (power), R16 VCC (power), R17 VCCPLL_R (power), R19 VCCIO3 (power), T9 VCCAUX (power), T10 VCC (power), T11 VCC (power), T12 VCC (power), T15 VCC (power), T16 VCC (power), T17 VCC (power), T18 VCCAUX (power), U9 VCCIO6 (power), U11 VCC (power), U12 VCC (power), U13 VCC (power), U14 VCC (power), U15 VCC (power), U16 VCC (power), U18 VCCIO3 (power), V9 VCCAUX (power), V11 VCCAUX (power), V13 VCCA (power), V14 VCCA (power), V16 VCCAUX (power), V18 VCCAUX (power), W12 VCCA (power), W13 VCCA (power), W14 VCCA (power), W15 VCCA (power), Y13 VCCA (power), Y14 VCCA (power)
part K pins: A2 GND (power), A25 GND (power), AA6 GND (power), AA8 GND (power), AA9 GND (power), AA13 GND (power), AA14 GND (power), AA18 GND (power), AA19 GND (power), AA21 GND (power), AB2 GND (power), AB8 GND (power), AB19 GND (power), AB25 GND (power), AC5 GND (power), AC6 GND (power), AC7 GND (power), AC8 GND (power), AC11 GND (power), AC12 GND (power), AC13 GND (power), AC14 GND (power), AC15 GND (power), AC16 GND (power), AC19 GND (power), AC20 GND (power), AC21 GND (power), AC22 GND (power), AD5 GND (power), AD22 GND (power), AE1 GND (power), AE5 GND (power), AE6 GND (power), AE7 GND (power), AE8 GND (power), AE9 GND (power), AE10 GND (power), AE11 GND (power), AE12 GND (power), AE13 GND (power), AE14 GND (power), AE15 GND (power), AE16 GND (power), AE17 GND (power), AE18 GND (power), AE19 GND (power), AE20 GND (power), AE21 GND (power), AE22 GND (power), AE26 GND (power), AF2 GND (power), AF5 GND (power), AF22 GND (power), AF25 GND (power), B1 GND (power), B5 GND (power), B9 GND (power), B14 GND (power), B18 GND (power), B22 GND (power), B26 GND (power), D7 GND (power), D11 GND (power), D16 GND (power), D20 GND (power), E2 GND (power), E25 GND (power), F6 GND (power), F21 GND (power), G4 GND (power), G12 GND (power), G15 GND (power), G23 GND (power), H9 GND (power), H18 GND (power), J2 GND (power), J8 GND (power), J12 GND (power), J15 GND (power), J19 GND (power), J25 GND (power), K10 GND (power), K17 GND (power), L4 GND (power), L13 GND (power), L14 GND (power), L23 GND (power), M7 GND (power), M9 GND (power), M12 GND (power), M13 GND (power), M14 GND (power), M15 GND (power), M18 GND (power), M20 GND (power), N2 GND (power), N11 GND (power), N12 GND (power), N13 GND (power), N14 GND (power), N15 GND (power), N16 GND (power), P11 GND (power), P12 GND (power), P13 GND (power), P14 GND (power), P15 GND (power), P16 GND (power), P25 GND (power), R7 GND (power), R9 GND (power), R12 GND (power), R13 GND (power), R14 GND (power), R15 GND (power), R20 GND (power), T4 GND (power), T13 GND (power), T14 GND (power), T19 GND (power), T23 GND (power), U17 GND (power), V2 GND (power), V12 GND (power), V15 GND (power), V19 GND (power), V25 GND (power), W11 GND (power), W16 GND (power), Y4 GND (power), Y9 GND (power), Y10 GND (power), Y11 GND (power), Y12 GND (power), Y15 GND (power), Y16 GND (power), Y17 GND (power), Y18 GND (power), Y23 GND (power)
part L pins: A8 NC, AA10 NC, AA11 NC, AA12 NC, AB9 NC, AB10 NC, AB11 NC, AB12 NC, AB13 NC, AC9 NC, AC10 NC, AD6 NC, AD7 NC, AD8 NC, AD9 NC, AD10 NC, AD11 NC, AD12 NC, AD13 NC, AF6 NC, AF7 NC, AF8 NC, AF9 NC, AF10 NC, AF11 NC, AF12 NC, AF13 NC, B8 NC, C2 NC, C9 NC, C10 NC, C18 NC, C19 NC, D2 NC, D9 NC, D10 NC, D18 NC, D19 NC, E10 NC, E17 NC, E26 NC, F2 NC, F3 NC, F10 NC, F16 NC, F17 NC, F18 NC, F24 NC, F25 NC, F26 NC, G9 NC, G10 NC, G16 NC, G17 NC, G24 NC, G26 NC, H3 NC, H4 NC, H10 NC, H11 NC, H16 NC, H17 NC, H23 NC, H25 NC, H26 NC, J7 NC, J23 NC, K8 NC, K22 NC, K23 NC, L7 NC, L8 NC, L21 NC, L22 NC, T5 NC, T6 NC, U5 NC, U6 NC, U7 NC, U8 NC, V3 NC, V4 NC, V17 NC, V23 NC, W3 NC, W4 NC, W5 NC, W18 NC, W24 NC, W25 NC, W26 NC, Y1 NC, Y2 NC, Y3 NC, Y25 NC, Y26 NC
part M pins: R18 XRES, U10 RESERVE, V8 RESERVE
part A text: BANK 0
part B text: BANK 1
part C text: BANK 2
part D text: BANK 3
part E text: BANK 6
part F text: BANK 7
part G text: BANK 8

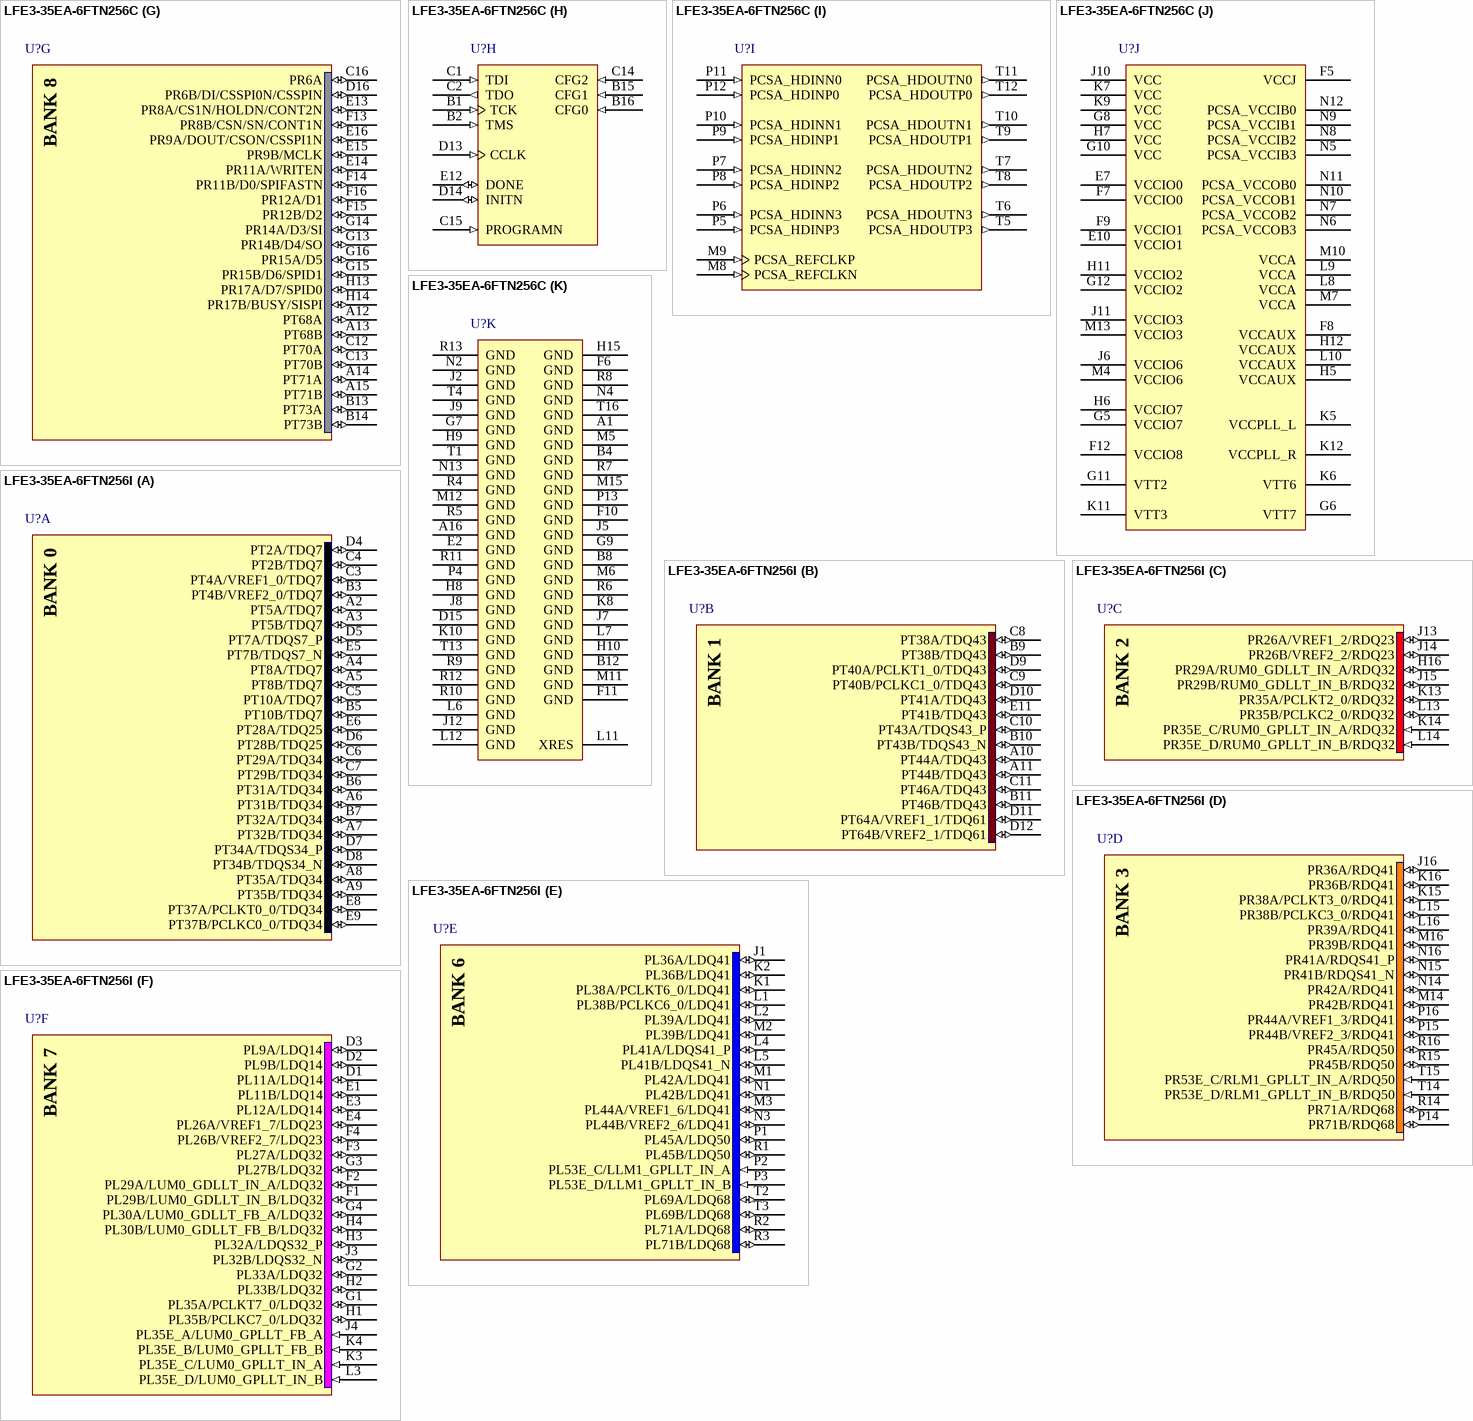
[diagram p22: symbols LFE3-35EA-6FTN256C to LFE3-35EA-6FTN256I]